# Altium schematic symbol library CPU.SchLib: 117 symbols (part 1 of 2)
Pins are listed as number, name and electrical type; pins without a type are passive.

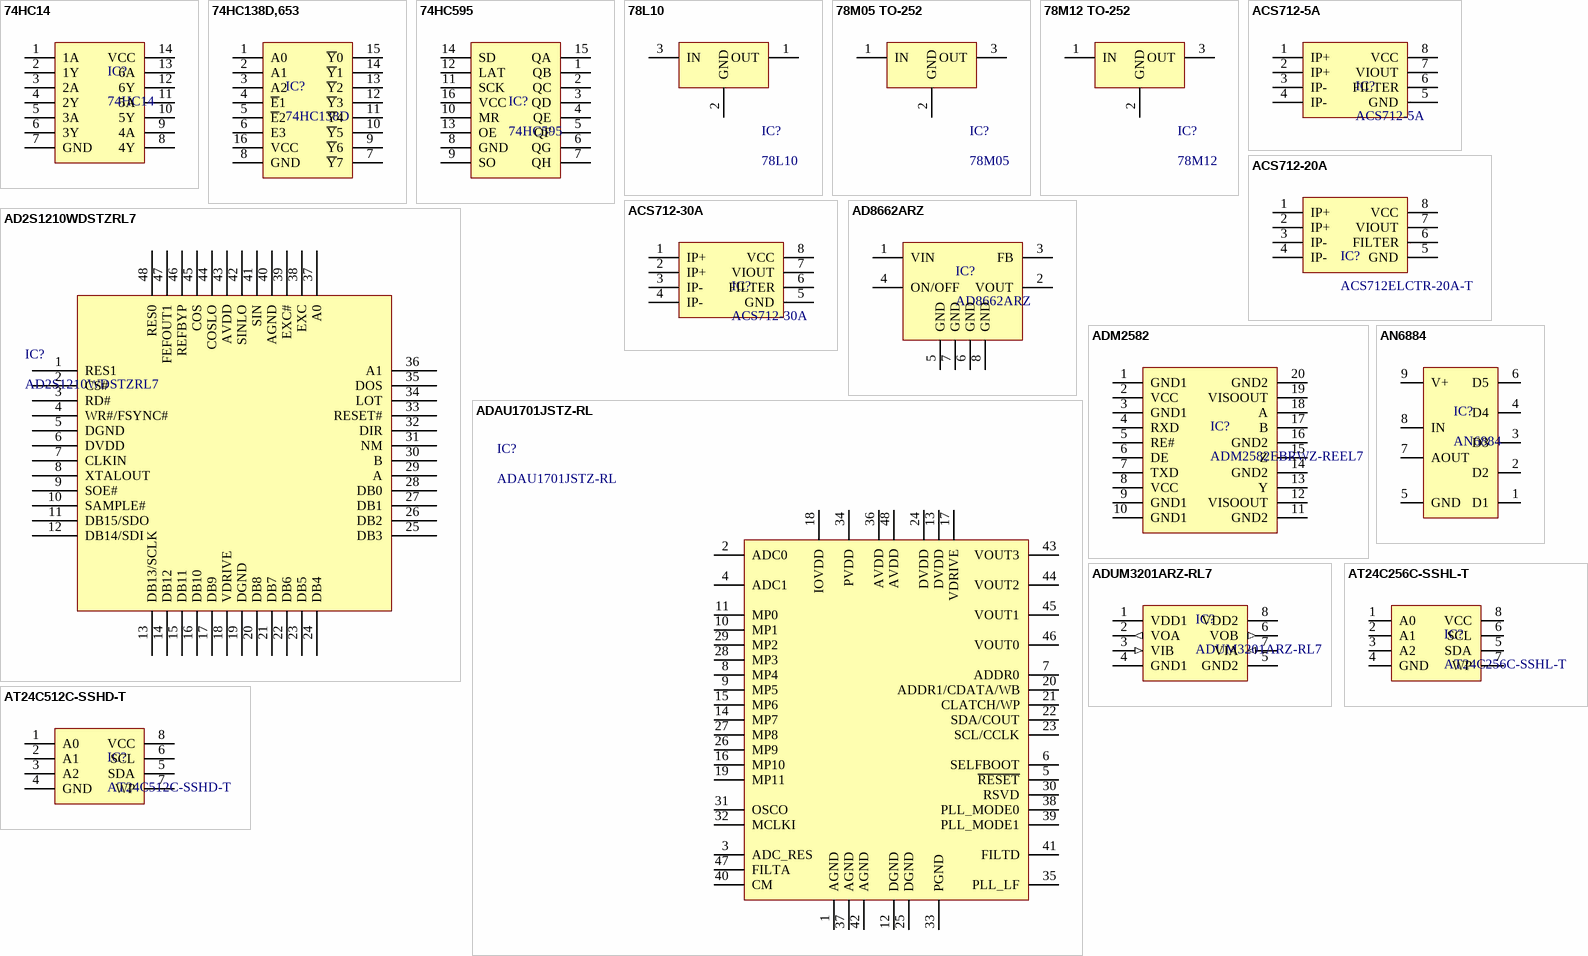
[diagram p0: symbols 74HC14 to AT24C512C-SSHD-T]

## 74HC14
designator IC?
2V~6V 6 SOP-14 Inverters ROHS; Manufacturer: JSMSEMI; So_Chan_Dan: 14; So_Chan_Cam: 0; Mfr.Part #: 74HC14; Package: SOP-14; Name: 74HC14
footprint SOP-14
pins: 1 1A, 2 1Y, 3 2A, 4 2Y, 5 3A, 6 3Y, 7 GND, 8 4Y, 9 4A, 10 5Y, 11 5A, 12 6Y, 13 6A, 14 VCC

## 74HC138D,653
designator IC?, comment 74HC138D
3/8 2V~6V 160uA 15ns@4.5V,50pF SOIC-16 Signal Switches, Multiplexers, Decoders RoHS; Manufacturer: Nexperia; Mfr.Part #: 74HC138D,653; Package: SOIC-16; LCSC Part #: C5602; DigiKey Part Number: 1727-2781-2-ND
footprint SOIC-16
pins: 1 A0, 2 A1, 3 A2, 4 ~{E}1, 5 ~{E}2, 6 E3, 7 ~{Y}7, 8 GND, 9 ~{Y}6, 10 ~{Y}5, 11 ~{Y}4, 12 ~{Y}3, 13 ~{Y}2, 14 ~{Y}1, 15 ~{Y}0, 16 VCC

## 74HC595
designator IC?
SOP-16 Shifting Register ROHS; Manufacturer: JSMSEMI; Mfr.Part #: 74HC595D; So_Chan_Cam: 0; So_Chan_Dan: 16; Package: SOP-16; Name: 74hc595
footprint SOP-16
pins: 1 QB, 2 QC, 3 QD, 4 QE, 5 QF, 6 QG, 7 QH, 8 GND, 9 SO, 10 MR, 11 SCK, 12 LAT, 13 OE, 14 SD, 15 QA, 16 VCC

## 78L10
designator IC?
100mA Fixed 10V Positive electrode 30V SOT-89 Voltage Regulators - Linear, Low Drop Out (LDO) Regulators ROHS; Manufacturer: MSKSEMI; Mfr.Part #: MS78L10; So_Chan_Dan: 3; So_Chan_Cam: 0; Name: 78L10; ComponentLink1Description: New link; ComponentLink1URL: https://www.lcsc.com/datasheet/lcsc_datasheet_2311231510_MSKSEMI-AMS1117-5-0V_C7473143.pdf; Package: SOT-89
footprint SOT-89
pins: 1 OUT, 2 GND, 3 IN

## 78M05 TO-252
designator IC?, comment 78M05
500mA Fixed 5V Positive electrode 35V TO-252-2L Linear Voltage Regulators (LDO) ROHS; Manufacturer: Jiangsu Changjing Electronics Technology Co., Ltd.; Mfr.Part #: CJ78M05; So_Chan_Dan: 3; So_Chan_Cam: 0; Package: TO-252-2L; Name: 78M05
footprint TO-252
pins: 1 IN, 2 GND, 3 OUT

## 78M12 TO-252
designator IC?, comment 78M12
500mA 80dB@(120Hz) null 12V Positive electrode 35V TO-252 Linear Voltage Regulators (LDO) ROHS; Manufacturer: MSKSEMI; Mfr.Part #: 78M12-MS; So_Chan_Dan: 3; So_Chan_Cam: 0; Name: 78M12; ComponentLink1Description: New link; ComponentLink1URL: https://www.lcsc.com/datasheet/lcsc_datasheet_2210271600_MSKSEMI-78M12-MS_C5174620.pdf; Package: TO-252
footprint TO-252
pins: 1 IN, 2 GND, 3 OUT

## ACS712-5A
designator IC?
5A SOIC-8 Current Sensors ROHS; Manufacturer: Allegro MicroSystems, LLC; Mfr.Part #: ACS712ELCTR-05B-T; So_Chan_Dan: 8; So_Chan_Cam: 0; Package: SOIC-8; Name: ACS712-5A
footprint SOIC-8
pins: 1 IP+, 2 IP+, 3 IP-, 4 IP-, 5 GND, 6 FILTER, 7 VIOUT, 8 VCC

## ACS712-20A
designator IC?, comment ACS712ELCTR-20A-T
20A SOIC-8 Current Sensors ROHS; Manufacturer: Allegro MicroSystems, LLC; Name: ACS712; So_Chan_Dan: 8; So_Chan_Cam: 0; Mfr.Part #: ACS712ELCTR-20A-T; Package: SOIC-8
footprint SOIC-8
pins: 1 IP+, 2 IP+, 3 IP-, 4 IP-, 5 GND, 6 FILTER, 7 VIOUT, 8 VCC

## ACS712-30A
designator IC?
30A SOIC-8 Current Sensors ROHS; Manufacturer: Allegro MicroSystems, LLC; Mfr.Part #: ACS712ELCTR-30A-T; So_Chan_Dan: 8; So_Chan_Cam: 0; Package: SOIC-8; Name: ACS712-30A
footprint SOIC-8
pins: 1 IP+, 2 IP+, 3 IP-, 4 IP-, 5 GND, 6 FILTER, 7 VIOUT, 8 VCC

## AD2S1210WDSTZRL7
designator IC?
4.75V~5.25V LQFP-48(7x7) ADCs/DACs - Special Purpose ROHS; Manufacturer: Analog Devices; So_Chan_Dan: 48; So_Chan_Cam: 0; Mfr.Part #: AD2S1210WDSTZRL7; Package: LQFP-48(7x7); Name: AD2S1210WDSTZRL7
footprint LQFP-48(7x7)
pins: 1 RES1, 2 CS#, 3 RD#, 4 WR#/FSYNC#, 5 DGND, 6 DVDD, 7 CLKIN, 8 XTALOUT, 9 SOE#, 10 SAMPLE#, 11 DB15/SDO, 12 DB14/SDI, 13 DB13/SCLK, 14 DB12, 15 DB11, 16 DB10, 17 DB9, 18 VDRIVE, 19 DGND, 20 DB8, 21 DB7, 22 DB6, 23 DB5, 24 DB4, 25 DB3, 26 DB2, 27 DB1, 28 DB0, 29 A, 30 B, 31 NM, 32 DIR, 33 RESET#, 34 LOT, 35 DOS, 36 A1, 37 A0, 38 EXC, 39 EXC#, 40 AGND, 41 SIN, 42 SINLO, 43 AVDD, 44 COSLO, 45 COS, 46 REFBYP, 47 FEFOUT1, 48 RES0

## AD8662ARZ
designator IC?
4MHz 0.3pA Dual channel SOIC-8 Precision Op Amps ROHS; Manufacturer: Analog Devices; Mfr.Part #: AD8662ARZ-REEL7; So_Chan_Dan: 6; So_Chan_Cam: 0; Packahe: SOIC-8; Name: AD8662ARZ
footprint SOIC-8
pins: 1 VIN, 2 VOUT, 3 FB, 4 ON/OFF, 5 GND, 6 GND, 7 GND, 8 GND

## ADAU1701JSTZ-RL
designator IC?
192kHz LQFP-48(7x7) DSP (Digital Signal Processors) RoHS; Manufacturer: ADI; Mfr.Part #: ADAU1701JSTZ-RL; Package: LQFP-48(7x7); LCSC Part #: C389590; ComponentLink1Description: Link; ComponentLink1URL: https://www.lcsc.com/product-detail/C389590.html?s_z=n_C389590; ComponentLink2Description: Link 1; ComponentLink2URL: https://www.digikey.com/en/products/detail/analog-devices-inc/ADAU1701JSTZ-RL/1555944?s=N4IgTCBcDaIIIBE4FUCMB2ADKgUgZQBUAtAWgCUAZEAXQF8g; DigiKey Part Number: ADAU1701JSTZ-RLTR-ND
footprint LQFP-48(7x7)
pins: 1 AGND, 2 ADC0, 3 ADC_RES, 4 ADC1, 5 ~{RESET}, 6 SELFBOOT, 7 ADDR0, 8 MP4, 9 MP5, 10 MP1, 11 MP0, 12 DGND, 13 DVDD, 14 MP7, 15 MP6, 16 MP10, 17 VDRIVE, 18 IOVDD, 19 MP11, 20 ADDR1/CDATA/WB, 21 CLATCH/WP, 22 SDA/COUT, 23 SCL/CCLK, 24 DVDD, 25 DGND, 26 MP9, 27 MP8, 28 MP3, 29 MP2, 30 RSVD, 31 OSCO, 32 MCLKI, 33 PGND, 34 PVDD, 35 PLL_LF, 36 AVDD, 37 AGND, 38 PLL_MODE0, 39 PLL_MODE1, 40 CM, 41 FILTD, 42 AGND, 43 VOUT3, 44 VOUT2, 45 VOUT1, 46 VOUT0, 47 FILTA, 48 AVDD

## ADM2582
designator IC?, comment ADM2582EBRWZ-REEL7
SOIC-20-300mil Isolated RS-485/422 Transceivers ROHS; MF: Texas Instruments; MP: SN74HC540DWE4; Purchase-URL: https://pricing.snapeda.com/search/part/SN74HC540DWE4/?ref=eda; Value: *; Package: SOIC-20 Texas Instruments; Check_prices: https://www.snapeda.com/parts/SN74HC540DWE4/Texas+Instruments/view-part/?ref=eda; Price: None; Availability: In Stock; SnapEDA_Link: https://www.snapeda.com/parts/SN74HC540DWE4/Texas+Instruments/view-part/?ref=snap
footprint SOI-20-300mil
pins: 1 GND1, 2 VCC, 3 GND1, 4 RXD, 5 RE#, 6 DE, 7 TXD, 8 VCC, 9 GND1, 10 GND1, 11 GND2, 12 VISOOUT, 13 Y, 14 GND2, 15 Z, 16 GND2, 17 B, 18 A, 19 VISOOUT, 20 GND2

## ADUM3201ARZ-RL7
designator IC?
SOIC-8 Digital Isolators ROHS; Manufacturer: Analog Devices; So_Chan_Dan: 8; So_Chan_Cam: 0; Mfr.Part #: ADUM3201ARZ-RL7; Package: SOIC-8; Name: ADUM3201ARZ-RL7
footprint SOIC-8
pins: 1 VDD1, 2 VOA (out), 3 VIB (in), 4 GND1, 5 GND2, 6 VOB (out), 7 VIA (in), 8 VDD2

## AN6884
designator IC?
MF: Panasonic; Package: None; Value: *; MP: AN6884
footprint SIP9
pins: 1 D1, 2 D2, 3 D3, 4 D4, 5 GND, 6 D5, 7 AOUT, 8 IN, 9 V+

## AT24C256C-SSHL-T
designator IC?
1.7V~5.5V 256Kbit 1MHz I2C SOIC-8 Memory (ICs) RoHS; Manufacturer: Microchip Tech; Mfr.Part #: AT24C256C-SSHL-T; Package: SOIC-8; LCSC Part #: C6482; ComponentLink1Description: Link; ComponentLink1URL: https://www.lcsc.com/product-detail/C6482.html?s_z=n_C6482; DigiKey Part Number: AT24C256C-SSHL-TTR-ND; ComponentLink2Description: Link 1; ComponentLink2URL: https://www.digikey.com/en/products/detail/microchip-technology/AT24C256C-SSHL-T/2271166?s=N4IgTCBcDaIIIBUwBYDCYCsA2VBaAyvgBIAyuCIAugL5A
footprint SOIC-8
pins: 1 A0, 2 A1, 3 A2, 4 GND, 5 SDA, 6 SCL, 7 WP, 8 VCC

## AT24C512C-SSHD-T
designator IC?
512Kbit 1MHz I2C SOIC-8 EEPROM ROHS; Manufacturer: MICROCHIP; Mfr.Part #: AT24C512C-SSHD-T; Package: SOIC-8; LCSC Part #: C12371
footprint SOIC-8
pins: 1 A0, 2 A1, 3 A2, 4 GND, 5 SDA, 6 SCL, 7 WP, 8 VCC

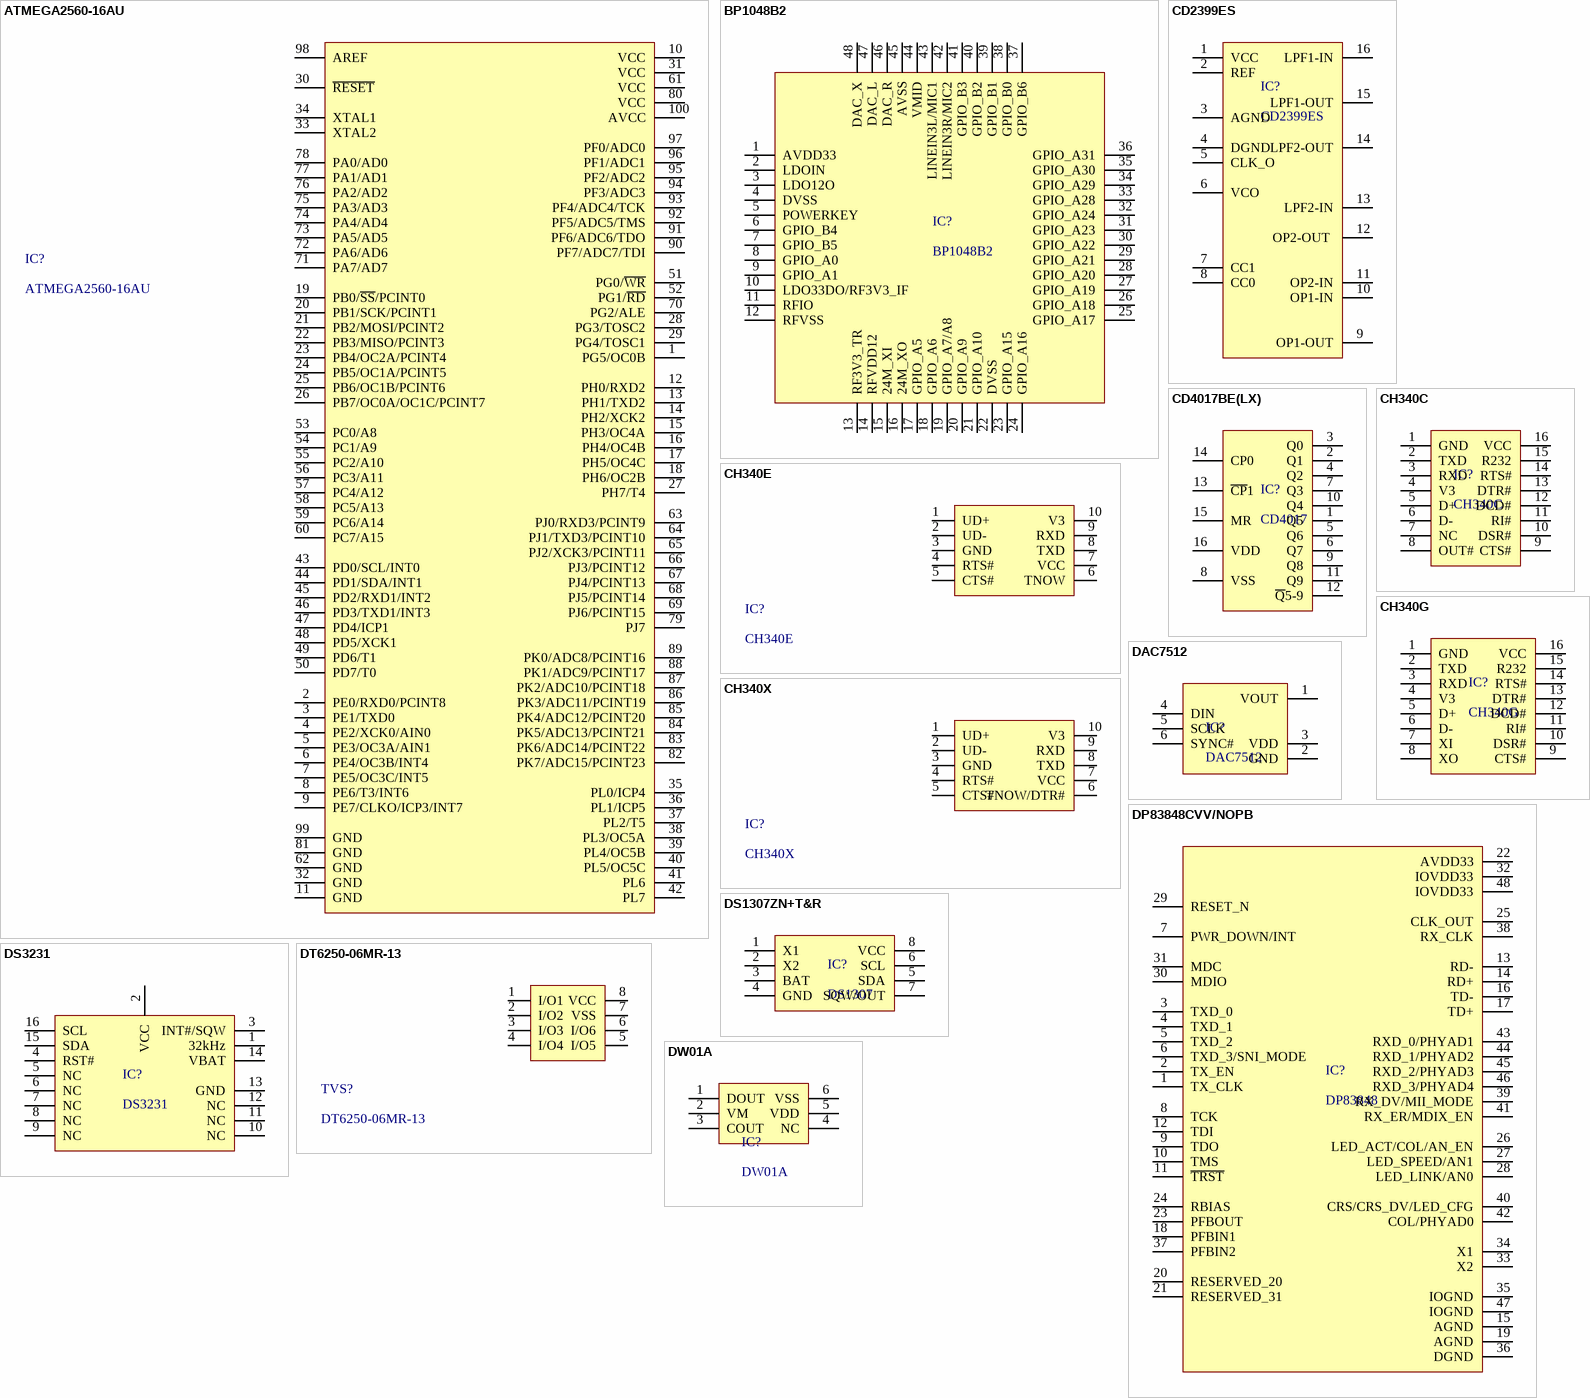
[diagram p1: symbols ATMEGA2560-16AU to DW01A]

## ATMEGA2560-16AU
designator IC?
AVR 16MHz TQFP-100(14x14) Microcontrollers (MCU/MPU/SOC) ROHS; Manufacturer: Microchip Tech; Name: STM32H750VBT6; So_Chan_Dan: 100; So_Chan_Cam: 0; Mfr.Part #: ATMEGA2560-16AU; Package: TQFP-100(14x14)
footprint TQFP-100(14x14)
pins: 1 PG5/OC0B, 2 PE0/RXD0/PCINT8, 3 PE1/TXD0, 4 PE2/XCK0/AIN0, 5 PE3/OC3A/AIN1, 6 PE4/OC3B/INT4, 7 PE5/OC3C/INT5, 8 PE6/T3/INT6, 9 PE7/CLKO/ICP3/INT7, 10 VCC, 11 GND (power), 12 PH0/RXD2, 13 PH1/TXD2, 14 PH2/XCK2, 15 PH3/OC4A, 16 PH4/OC4B, 17 PH5/OC4C, 18 PH6/OC2B, 19 PB0/~{SS}/PCINT0, 20 PB1/SCK/PCINT1, 21 PB2/MOSI/PCINT2, 22 PB3/MISO/PCINT3, 23 PB4/OC2A/PCINT4, 24 PB5/OC1A/PCINT5, 25 PB6/OC1B/PCINT6, 26 PB7/OC0A/OC1C/PCINT7, 27 PH7/T4, 28 PG3/TOSC2, 29 PG4/TOSC1, 30 ~{RESET}, 31 VCC, 32 GND (power), 33 XTAL2, 34 XTAL1, 35 PL0/ICP4, 36 PL1/ICP5, 37 PL2/T5, 38 PL3/OC5A, 39 PL4/OC5B, 40 PL5/OC5C, 41 PL6, 42 PL7, 43 PD0/SCL/INT0, 44 PD1/SDA/INT1, 45 PD2/RXD1/INT2, 46 PD3/TXD1/INT3, 47 PD4/ICP1, 48 PD5/XCK1, 49 PD6/T1, 50 PD7/T0, 51 PG0/~{WR}, 52 PG1/~{RD}, 53 PC0/A8, 54 PC1/A9, 55 PC2/A10, 56 PC3/A11, 57 PC4/A12, 58 PC5/A13, 59 PC6/A14, 60 PC7/A15, 61 VCC, 62 GND (power), 63 PJ0/RXD3/PCINT9, 64 PJ1/TXD3/PCINT10, 65 PJ2/XCK3/PCINT11, 66 PJ3/PCINT12, 67 PJ4/PCINT13, 68 PJ5/PCINT14, 69 PJ6/PCINT15, 70 PG2/ALE, 71 PA7/AD7, 72 PA6/AD6, 73 PA5/AD5, 74 PA4/AD4, 75 PA3/AD3, 76 PA2/AD2, 77 PA1/AD1, 78 PA0/AD0, 79 PJ7, 80 VCC, 81 GND (power), 82 PK7/ADC15/PCINT23, 83 PK6/ADC14/PCINT22, 84 PK5/ADC13/PCINT21, 85 PK4/ADC12/PCINT20, 86 PK3/ADC11/PCINT19, 87 PK2/ADC10/PCINT18, 88 PK1/ADC9/PCINT17, 89 PK0/ADC8/PCINT16, 90 PF7/ADC7/TDI, 91 PF6/ADC6/TDO, 92 PF5/ADC5/TMS, 93 PF4/ADC4/TCK, 94 PF3/ADC3, 95 PF2/ADC2, 96 PF1/ADC1, 97 PF0/ADC0, 98 AREF, 99 GND (power), 100 AVCC

## BP1048B2
designator IC?
Manufacturer: MVLISICON; So_Chan_Dan: 48; So_Chan_Cam: 0; Mfr.Part #: BP1048B2; Package: LQFP-48(7x7); Name: BP1048B2
footprint LQFP-48(7x7)
pins: 1 AVDD33, 2 LDOIN, 3 LDO12O, 4 DVSS, 5 POWERKEY, 6 GPIO_B4, 7 GPIO_B5, 8 GPIO_A0, 9 GPIO_A1, 10 LDO33DO/RF3V3_IF, 11 RFIO, 12 RFVSS, 13 RF3V3_TR, 14 RFVDD12, 15 24M_XI, 16 24M_XO, 17 GPIO_A5, 18 GPIO_A6, 19 GPIO_A7/A8, 20 GPIO_A9, 21 GPIO_A10, 22 DVSS, 23 GPIO_A15, 24 GPIO_A16, 25 GPIO_A17, 26 GPIO_A18, 27 GPIO_A19, 28 GPIO_A20, 29 GPIO_A21, 30 GPIO_A22, 31 GPIO_A23, 32 GPIO_A24, 33 GPIO_A28, 34 GPIO_A29, 35 GPIO_A30, 36 GPIO_A31, 37 GPIO_B6, 38 GPIO_B0, 39 GPIO_B1, 40 GPIO_B2, 41 GPIO_B3, 42 LINEIN3R/MIC2, 43 LINEIN3L/MIC1, 44 VMID, 45 AVSS, 46 DAC_R, 47 DAC_L, 48 DAC_X

## CD2399ES
designator IC?
Processor SOP-16 Audio Special Purpose RoHS; Manufacturer: GREENMICRO; Mfr.Part #: CD2399ES; Package: SOP-16; LCSC Part #: C51927339; DigiKey Part Number: NO; ComponentLink1Description: Link; ComponentLink1URL: https://www.lcsc.com/product-detail/C51927339.html?s_z=n_CD2399
footprint SOIC-16
pins: 1 VCC, 2 REF, 3 AGND, 4 DGND, 5 CLK_O, 6 VCO, 7 CC1, 8 CC0, 9 OP1-OUT, 10 OP1-IN, 11 OP2-IN, 12 OP2-OUT , 13 LPF2-IN, 14 LPF2-OUT, 15 LPF1-OUT, 16 LPF1-IN

## CD4017BE(LX)
designator IC?, comment CD4017
Rising Edge 1 11MHz DIP-16 Counters, Dividers RoHS; Manufacturer: lingxingic; Mfr.Part #: CD4017BE(LX); LCSC Part #: C32710674; Package: DIP-16; DigiKey Part Number: NO
footprint DIP-16
pins: 1 Q5, 2 Q1, 3 Q0, 4 Q2, 5 Q6, 6 Q7, 7 Q3, 8 VSS, 9 Q8, 10 Q4, 11 Q9, 12 ~{Q}5-9, 13 ~{CP}1, 14 CP0, 15 MR, 16 VDD

## CH340C
designator IC?
Transceiver 2Mbps USB 2.0 SOP-16 Interface Controllers RoHS; Manufacturer: WCH; Mfr.Part #: CH340C; Package: SOP-16; LCSC Part #: C84681; ComponentLink1Description: Link; ComponentLink1URL: https://www.lcsc.com/product-detail/C84681.html?s_z=n_CH340C; ComponentLink2Description: Link 1; ComponentLink2URL: *; DigiKey Part Number: NO
footprint SOIC-16
pins: 1 GND, 2 TXD, 3 RXD, 4 V3, 5 D+, 6 D-, 7 NC, 8 OUT#, 9 CTS#, 10 DSR#, 11 RI#, 12 DCD#, 13 DTR#, 14 RTS#, 15 R232, 16 VCC

## CH340E
designator IC?
Transceiver 2Mbps USB 2.0 MSOP-10 Interface Controllers RoHS; Manufacturer: WCH; Mfr.Part #: CH340E; Package: MSOP-10; LCSC Part #: C99652; DigiKey Part Number: NO; ComponentLink1Description: Link; ComponentLink1URL: https://www.lcsc.com/product-detail/C99652.html?s_z=n_CH340E; ComponentLink2Description: Link 1
footprint MSOP-10
pins: 1 UD+, 2 UD-, 3 GND, 4 RTS#, 5 CTS#, 6 TNOW, 7 VCC, 8 TXD, 9 RXD, 10 V3

## CH340G
designator IC?
2Mbps USB to UART USB 2.0 SOP-16 USB Converters ROHS; Manufacturer: WCH(Jiangsu Qin Heng); So_Chan_Dan: 16; So_Chna_Cam: 0; Mfr.Part #: CH340G; Package: SOP-16; Name: CH340G
footprint SOP-16
pins: 1 GND, 2 TXD, 3 RXD, 4 V3, 5 D+, 6 D-, 7 XI, 8 XO, 9 CTS#, 10 DSR#, 11 RI#, 12 DCD#, 13 DTR#, 14 RTS#, 15 R232, 16 VCC

## CH340X
designator IC?
2Mbps Transceiver USB 2.0 SOP-16 USB Converters ROHS; Manufacturer: WCH(Jiangsu Qin Heng); Mfr.Part #: CH340X; Package: MSOP-10; LCSC Part #: C3035748; DigiKey Part Number: NO; ComponentLink1Description: Link; ComponentLink1URL: https://www.lcsc.com/product-detail/C3035748.html?s_z=n_C3035748; ComponentLink2Description: Link 1
footprint MSOP-10
pins: 1 UD+, 2 UD-, 3 GND, 4 RTS#, 5 CTS#, 6 TNOW/DTR#, 7 VCC, 8 TXD, 9 RXD, 10 V3

## DAC7512
designator IC?
10us 2.7V~5.5V 12 Bits SOT-23-6 Digital to Analog Converters (DAC) ROHS; Manufacturer: Texas Instruments; Mfr.Part #: DAC7512N/3K; So_Chan_Dan: 6; So_Chan_Cam: 0; Package: SOT23-6; Name: DAC7512
footprint SOT23-6
pins: 1 VOUT, 2 GND, 3 VDD (power), 4 DIN (power), 5 SCLK (power), 6 SYNC#

## DP83848CVV/NOPB
designator IC?, comment DP83848
PHY Transceiver 3.3V LQFP-48(7x7) Drivers, Receivers, Transceivers RoHS; Manufacturer: TI; Mfr.Part #: DP83848IVVX/NOPB; Package: LQFP-48(7x7); LCSC Part #: C12082; DigiKey Part Number: DP83848IVVX/NOPBTR-ND
footprint LQFP-48(7x7)
pins: 1 TX_CLK, 2 TX_EN, 3 TXD_0, 4 TXD_1, 5 TXD_2, 6 TXD_3/SNI_MODE, 7 PWR_DOWN/INT, 8 TCK, 9 TDO, 10 TMS, 11 ~{TRST}, 12 TDI, 13 RD-, 14 RD+, 15 AGND, 16 TD-, 17 TD+, 18 PFBIN1, 19 AGND, 20 RESERVED_20, 21 RESERVED_31, 22 AVDD33, 23 PFBOUT, 24 RBIAS, 25 CLK_OUT, 26 LED_ACT/COL/AN_EN, 27 LED_SPEED/AN1, 28 LED_LINK/AN0, 29 RESET_N, 30 MDIO, 31 MDC, 32 IOVDD33, 33 X2, 34 X1, 35 IOGND, 36 DGND, 37 PFBIN2, 38 RX_CLK, 39 RX_DV/MII_MODE, 40 CRS/CRS_DV/LED_CFG, 41 RX_ER/MDIX_EN, 42 COL/PHYAD0, 43 RXD_0/PHYAD1, 44 RXD_1/PHYAD2, 45 RXD_2/PHYAD3, 46 RXD_3/PHYAD4, 47 IOGND, 48 IOVDD33

## DS1307ZN+T&R
designator IC?, comment DS1307
External No SOP-8 Real Time Clocks RoHS; Manufacturer: MAXIM; Mfr.Part #: DS1307ZN+T&R; Package: SOP-8; LCSC Part #: C26858; DigiKey Part Number: DS1307ZN+T&RTR-ND
footprint SOIC-8
pins: 1 X1, 2 X2, 3 BAT, 4 GND, 5 SDA, 6 SCL, 7 SQW/OUT, 8 VCC

## DS3231
designator IC?
I2C SOIC-16-300mil Real Time Clocks ROHS; Manufacturer: Texas Instruments; Mfr.Part #: DS3231SN#T&R; So_Chan_Dan: 16; So_Chan_Cam: 0; Name: DS3231; Package: SOIC-16-300mil; Links: https://www.lcsc.com/product-detail/Real-Time-Clocks_Analog-Devices-Inc-Maxim-Integrated-DS3231SN-T-R_C9866.html
footprint SOIC-16-300mil
pins: 1 32kHz, 2 VCC, 3 INT#/SQW, 4 RST#, 5 NC, 6 NC, 7 NC, 8 NC, 9 NC, 10 NC, 11 NC, 12 NC, 13 GND, 14 VBAT, 15 SDA, 16 SCL

## DT6250-06MR-13
designator TVS?
4A@8/20us 10V 6V 5V MSOP-8 TVS Diodes RoHS; So_Chna_Cam: 0; Manufacturer: DIODES; Mfr.Part #: DT6250-06MR-13; Package: MSOP-8; LCSC Part #: C460602; DigiKey Part Number: DT6250-06MR-13DITR-ND
footprint MSOP-8
pins: 1 I/O1, 2 I/O2, 3 I/O3, 4 I/O4, 5 I/O5, 6 I/O6, 7 VSS, 8 VCC

## DW01A
designator IC?
Lithium-ion/Polymer 1 SOT23-6 Battery Management ROHS; Manufacturer: HL; So_Chan_Dan: 6; So_Chan_Cam: 0; Package: SOT23-6; Name: DW01A; Mfr.Part #: DW01A
footprint SOT23-6
pins: 1 DOUT, 2 VM, 3 COUT (power), 4 NC (power), 5 VDD (power), 6 VSS

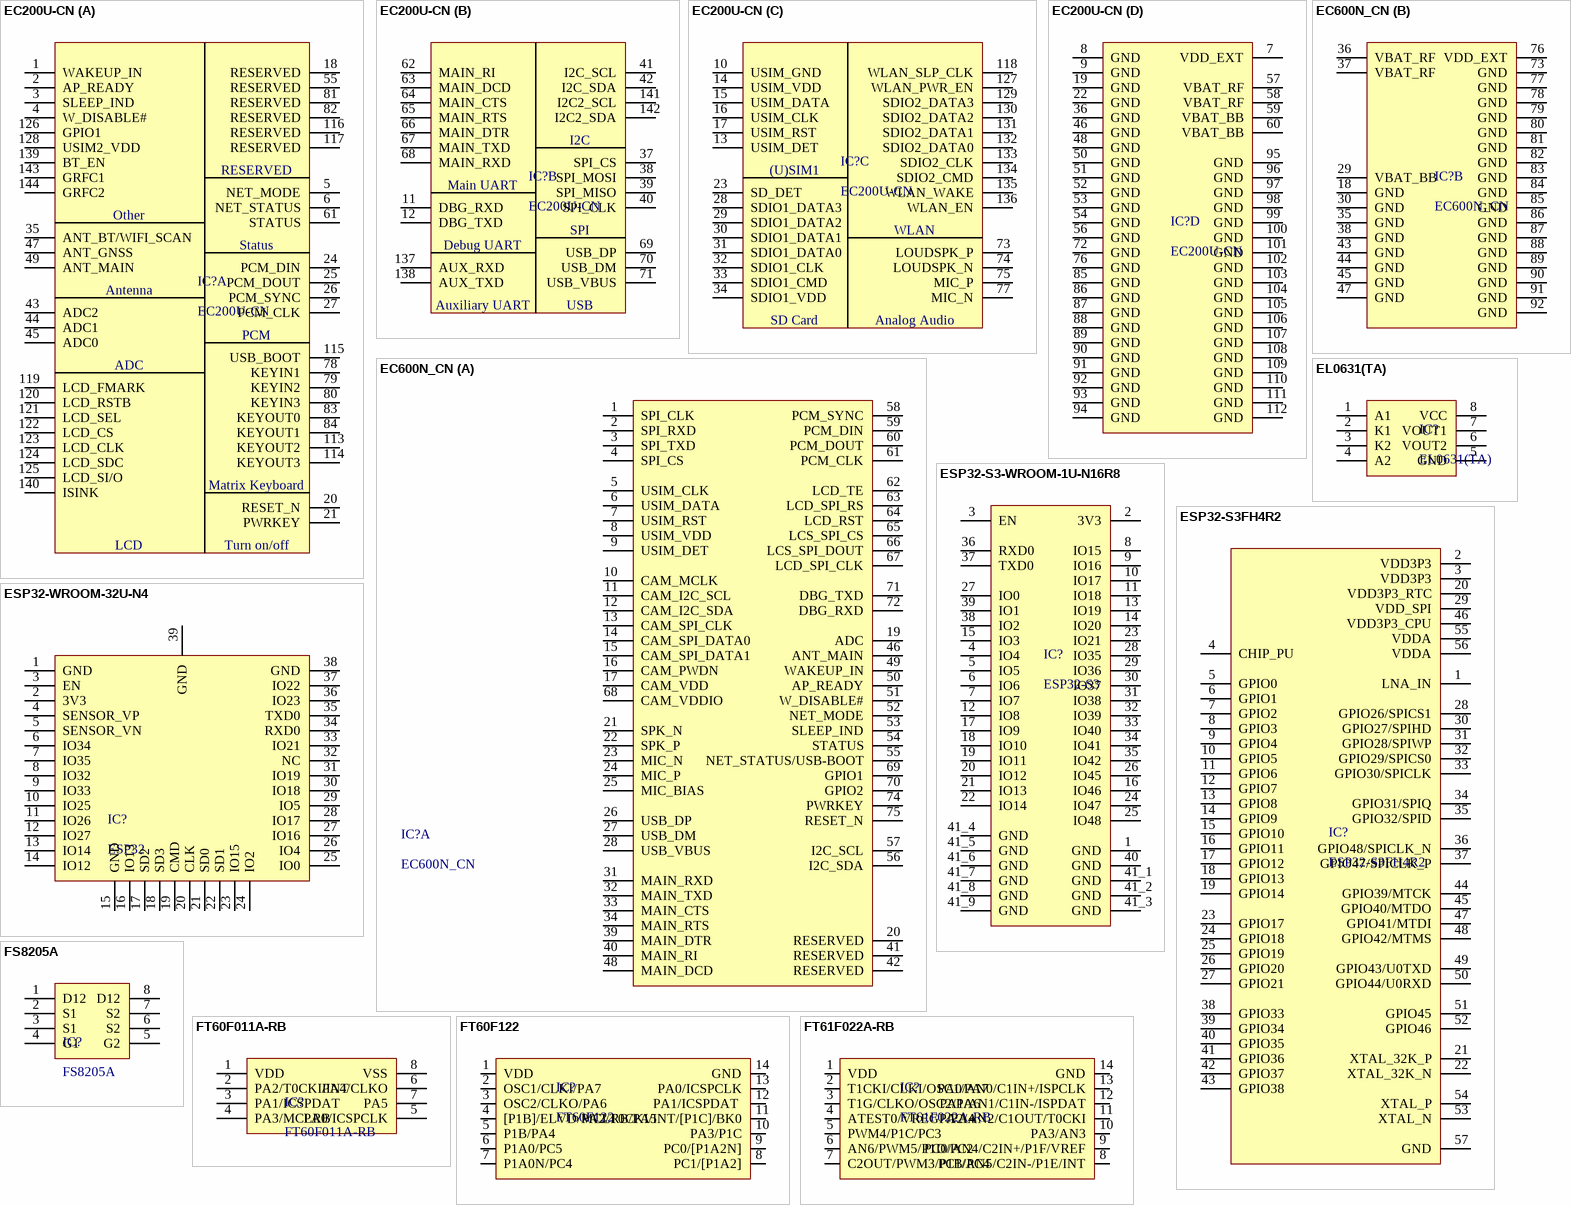
[diagram p2: symbols EC200U-CN to FT61F022A-RB]

## EC200U-CN
designator IC?
Transceiver Module; Manufacturer: QUECTEL; Mfr.Part #: EC200UCNAA-N05-SGNSA; So_Chan_Dan: 144; So_Chan_Cam: 0; Package: LQFP-64(10x10); Name: EC200U-CN
footprint EC200U-XX
part A pins: 1 WAKEUP_IN, 2 AP_READY, 3 SLEEP_IND, 4 W_DISABLE#, 5 NET_MODE, 6 NET_STATUS, 18 RESERVED, 20 RESET_N, 21 PWRKEY, 24 PCM_DIN, 25 PCM_DOUT, 26 PCM_SYNC, 27 PCM_CLK, 35 ANT_BT/WIFI_SCAN, 43 ADC2, 44 ADC1, 45 ADC0, 47 ANT_GNSS, 49 ANT_MAIN, 55 RESERVED, 61 STATUS, 78 KEYIN1, 79 KEYIN2, 80 KEYIN3, 81 RESERVED, 82 RESERVED, 83 KEYOUT0, 84 KEYOUT1, 113 KEYOUT2, 114 KEYOUT3, 115 USB_BOOT, 116 RESERVED, 117 RESERVED, 119 LCD_FMARK, 120 LCD_RSTB, 121 LCD_SEL, 122 LCD_CS, 123 LCD_CLK, 124 LCD_SDC, 125 LCD_SI/O, 126 GPIO1, 128 USIM2_VDD, 139 BT_EN, 140 ISINK, 143 GRFC1, 144 GRFC2
part B pins: 11 DBG_RXD, 12 DBG_TXD, 37 SPI_CS, 38 SPI_MOSI, 39 SPI_MISO, 40 SPI_CLK, 41 I2C_SCL, 42 I2C_SDA, 62 MAIN_RI, 63 MAIN_DCD, 64 MAIN_CTS, 65 MAIN_RTS, 66 MAIN_DTR, 67 MAIN_TXD, 68 MAIN_RXD, 69 USB_DP, 70 USB_DM, 71 USB_VBUS, 137 AUX_RXD, 138 AUX_TXD, 141 I2C2_SCL, 142 I2C2_SDA
part C pins: 10 USIM_GND, 13 USIM_DET, 14 USIM_VDD, 15 USIM_DATA, 16 USIM_CLK, 17 USIM_RST, 23 SD_DET, 28 SDIO1_DATA3, 29 SDIO1_DATA2, 30 SDIO1_DATA1, 31 SDIO1_DATA0, 32 SDIO1_CLK, 33 SDIO1_CMD, 34 SDIO1_VDD, 73 LOUDSPK_P, 74 LOUDSPK_N, 75 MIC_P, 77 MIC_N, 118 WLAN_SLP_CLK, 127 WLAN_PWR_EN, 129 SDIO2_DATA3, 130 SDIO2_DATA2, 131 SDIO2_DATA1, 132 SDIO2_DATA0, 133 SDIO2_CLK, 134 SDIO2_CMD, 135 WLAN_WAKE, 136 WLAN_EN
part D pins: 7 VDD_EXT, 8 GND, 9 GND, 19 GND, 22 GND, 36 GND, 46 GND, 48 GND, 50 GND, 51 GND, 52 GND, 53 GND, 54 GND, 56 GND, 57 VBAT_RF, 58 VBAT_RF, 59 VBAT_BB, 60 VBAT_BB, 72 GND, 76 GND, 85 GND, 86 GND, 87 GND, 88 GND, 89 GND, 90 GND, 91 GND, 92 GND, 93 GND, 94 GND, 95 GND, 96 GND, 97 GND, 98 GND, 99 GND, 100 GND, 101 GND, 102 GND, 103 GND, 104 GND, 105 GND, 106 GND, 107 GND, 108 GND, 109 GND, 110 GND, 111 GND, 112 GND
part A text: Other; Status; Antenna; PCM; ADC; Matrix Keyboard; LCD; Turn on/off
part B text: I2C; Main UART; SPI; Debug UART; Auxiliary UART; USB
part C text: (U)SIM1; WLAN; SD Card; Analog Audio

## EC600N_CN
designator IC?
Transceiver Module; Manufacturer: QUECTEL; Package: EC600N_CN; Mfr.Part #: EC600N_CN; LCSC Part #: NO; DigiKey Part Number: NO
footprint EC600N-CN_R1.1
part A pins: 1 SPI_CLK, 2 SPI_RXD, 3 SPI_TXD, 4 SPI_CS, 5 USIM_CLK, 6 USIM_DATA, 7 USIM_RST, 8 USIM_VDD, 9 USIM_DET, 10 CAM_MCLK, 11 CAM_I2C_SCL, 12 CAM_I2C_SDA, 13 CAM_SPI_CLK, 14 CAM_SPI_DATA0, 15 CAM_SPI_DATA1, 16 CAM_PWDN, 17 CAM_VDD, 19 ADC, 20 RESERVED, 21 SPK_N, 22 SPK_P, 23 MIC_N, 24 MIC_P, 25 MIC_BIAS, 26 USB_DP, 27 USB_DM, 28 USB_VBUS, 31 MAIN_RXD, 32 MAIN_TXD, 33 MAIN_CTS, 34 MAIN_RTS, 39 MAIN_DTR, 40 MAIN_RI, 41 RESERVED, 42 RESERVED, 46 ANT_MAIN, 48 MAIN_DCD, 49 WAKEUP_IN, 50 AP_READY, 51 W_DISABLE#, 52 NET_MODE, 53 SLEEP_IND, 54 STATUS, 55 NET_STATUS/USB-BOOT, 56 I2C_SDA, 57 I2C_SCL, 58 PCM_SYNC, 59 PCM_DIN, 60 PCM_DOUT, 61 PCM_CLK, 62 LCD_TE, 63 LCD_SPI_RS, 64 LCD_RST, 65 LCS_SPI_CS, 66 LCS_SPI_DOUT, 67 LCD_SPI_CLK, 68 CAM_VDDIO, 69 GPIO1, 70 GPIO2, 71 DBG_TXD, 72 DBG_RXD, 74 PWRKEY, 75 RESET_N
part B pins: 18 GND, 29 VBAT_BB, 30 GND, 35 GND, 36 VBAT_RF, 37 VBAT_RF, 38 GND, 43 GND, 44 GND, 45 GND, 47 GND, 73 GND, 76 VDD_EXT, 77 GND, 78 GND, 79 GND, 80 GND, 81 GND, 82 GND, 83 GND, 84 GND, 85 GND, 86 GND, 87 GND, 88 GND, 89 GND, 90 GND, 91 GND, 92 GND

## EL0631(TA)
designator IC?
10Mbit/s 100ns 7V 10kV/us DC SOP-8 Logic Output Optocoupler ROHS; Manufacturer: Everlight Elec; So_Chan_Dan: 8; So_Chan_Cam: 0; Mfr.Part #: EL0631(TA); Package: SOP-8; Name: EL0631(TA)
footprint SOIC-8-1
pins: 1 A1, 2 K1, 3 K2, 4 A2, 5 GND, 6 VOUT2, 7 VOUT1, 8 VCC

## ESP32-S3-WROOM-1U-N16R8
designator IC?, comment ESP32-S3
2.4GHz ESP32-S3R8 -103.5dBm SMD,19.2x18mm RF Transceiver Modules and Modems RoHS; Manufacturer: ESPRESSIF; Mfr.Part #: ESP32-S3-WROOM-1U-N16R8; Package: SMD,19.2x18mm; LCSC Part #: C3013946; DigiKey Part Number: 1965-ESP32-S3-WROOM-1U-N16R8TR-ND; ComponentLink1Description: Link; ComponentLink1URL: https://www.lcsc.com/product-detail/C3013946.html?s_z=n_c3013946; ComponentLink2Description: Link 1; ComponentLink2URL: https://www.digikey.com/en/products/detail/espressif-systems/ESP32-S3-WROOM-1U-N16R8/16162641
footprint ESP32-S3-WROOM-1U-N16R8
pins: 1 GND, 2 3V3, 3 EN, 4 IO4, 5 IO5, 6 IO6, 7 IO7, 8 IO15, 9 IO16, 10 IO17, 11 IO18, 12 IO8, 13 IO19, 14 IO20, 15 IO3, 16 IO46, 17 IO9, 18 IO10, 19 IO11, 20 IO12, 21 IO13, 22 IO14, 23 IO21, 24 IO47, 25 IO48, 26 IO45, 27 IO0, 28 IO35, 29 IO36, 30 IO37, 31 IO38, 32 IO39, 33 IO40, 34 IO41, 35 IO42, 36 RXD0, 37 TXD0, 38 IO2, 39 IO1, 40 GND, 41_1 GND, 41_2 GND, 41_3 GND, 41_4 GND, 41_5 GND, 41_6 GND, 41_7 GND, 41_8 GND, 41_9 GND

## ESP32-S3FH4R2
designator IC?
21dBm LX7 Chip 2.4GHz QFN-56(7x7) WiFi Modules ROHS; Manufacturer: Espressif Systems; Package: QFN-56(7x7); Mfr.Part #: ESP32-S3FH4R2; Name: ESP32-S3FH4R2
footprint QFN-56(7x7)
pins: 1 LNA_IN, 2 VDD3P3, 3 VDD3P3, 4 CHIP_PU, 5 GPIO0, 6 GPIO1, 7 GPIO2, 8 GPIO3, 9 GPIO4, 10 GPIO5, 11 GPIO6, 12 GPIO7, 13 GPIO8, 14 GPIO9, 15 GPIO10, 16 GPIO11, 17 GPIO12, 18 GPIO13, 19 GPIO14, 20 VDD3P3_RTC, 21 XTAL_32K_P, 22 XTAL_32K_N, 23 GPIO17, 24 GPIO18, 25 GPIO19, 26 GPIO20, 27 GPIO21, 28 GPIO26/SPICS1, 29 VDD_SPI, 30 GPIO27/SPIHD, 31 GPIO28/SPIWP, 32 GPIO29/SPICS0, 33 GPIO30/SPICLK, 34 GPIO31/SPIQ, 35 GPIO32/SPID, 36 GPIO48/SPICLK_N, 37 GPIO47/SPICLK_P, 38 GPIO33, 39 GPIO34, 40 GPIO35, 41 GPIO36, 42 GPIO37, 43 GPIO38, 44 GPIO39/MTCK, 45 GPIO40/MTDO, 46 VDD3P3_CPU, 47 GPIO41/MTDI, 48 GPIO42/MTMS, 49 GPIO43/U0TXD, 50 GPIO44/U0RXD, 51 GPIO45, 52 GPIO46, 53 XTAL_N, 54 XTAL_P, 55 VDDA, 56 VDDA, 57 GND

## ESP32-WROOM-32U-N4
designator IC?, comment ESP32
2.4GHz ESP32-DOWD -97dBm SMD,19.2x18mm RF Transceiver Modules and Modems RoHS; Manufacturer: ESPRESSIF; Mfr.Part #: ESP32-WROOM-32U-N4; Package: SMD,19.2x18mm; LCSC Part #: C328062; DigiKey Part Number: 1965-ESP32-WROOM-32U-N4TR-ND; ComponentLink1Description: Link; ComponentLink1URL: https://www.lcsc.com/product-detail/C328062.html?s_z=n_ESP32-WROOM-32; ComponentLink2Description: Link 1; ComponentLink2URL: https://www.digikey.com/en/products/detail/espressif-systems/ESP32-WROOM-32U-N4/9381719?s=N4IgTCBcDaIAQFEDKAFAzGAtAdQEoHl8BZTDAVUwDkAWEAXQF8g
footprint ESP32-WROOM-32U
pins: 1 GND, 2 3V3, 3 EN, 4 SENSOR_VP, 5 SENSOR_VN, 6 IO34, 7 IO35, 8 IO32, 9 IO33, 10 IO25, 11 IO26, 12 IO27, 13 IO14, 14 IO12, 15 GND, 16 IO13, 17 SD2, 18 SD3, 19 CMD, 20 CLK, 21 SD0, 22 SD1, 23 IO15, 24 IO2, 25 IO0, 26 IO4, 27 IO16, 28 IO17, 29 IO5, 30 IO18, 31 IO19, 32 NC, 33 IO21, 34 RXD0, 35 TXD0, 36 IO23, 37 IO22, 38 GND, 39 GND

## FS8205A
designator IC?
20V 6A 25mΩ@4.5V,4A 1W 1V@250uA 2 N-Channel TSSOP-8 MOSFETs ROHS; Manufacturer: Fortune Semicon; So_Chan_Dan: 8; So_Chan_Cam: 0; Package: TSSOP-8; Name: FS8205A; Mfr.Part #: FS8205A
footprint TSSOP-8
pins: 1 D12, 2 S1, 3 S1 (power), 4 G1 (power), 5 G2 (power), 6 S2, 7 S2, 8 D12

## FT60F011A-RB
designator IC?
16MHz SOP-8 Microcontrollers (MCU/MPU/SOC) ROHS; Manufacturer: FMD(Fremont Micro Devices); So_Chan_Dan: 8; So_Chan_Cam: 0; Mfr.Part #: FT60F011A-RB; Package: SOIC-8; Name: FT60F011A-RB
footprint SOIC-8
pins: 1 VDD, 2 PA2/T0CKI/INT, 3 PA1/ICSPDAT, 4 PA3/MCLRB, 5 PA0/ICSPCLK, 6 PA4/CLKO, 7 PA5, 8 VSS

## FT60F122
designator IC?
SOP-14 Microcontrollers (MCU/MPU/SOC) ROHS; Manufacturer: FMD(Fremont Micro Devices); Name: FT61F022A-RB; So_Chan_Dan: 14; So_Chna_Cam: 0; Mfr.Part #: FT60F122; Package: SOIC-14
footprint SOP-14
pins: 1 VDD, 2 OSC1/CLKI/PA7, 3 OSC2/CLKO/PA6, 4 [P1B]/ELVD/MCLRB/PA5, 5 P1B/PA4, 6 P1A0/PC5, 7 P1A0N/PC4, 8 PC1/[P1A2], 9 PC0/[P1A2N], 10 PA3/P1C, 11 PA2/T0CKI/INT/[P1C]/BK0, 12 PA1/ICSPDAT , 13 PA0/ICSPCLK, 14 GND

## FT61F022A-RB
designator IC?
RISC 16MHz SOP-14 Microcontrollers (MCU/MPU/SOC) ROHS; Manufacturer: FMD(Fremont Micro Devices); So_Chan_Dan: 14; So_Chna_Cam: 0; Mfr.Part #: FT61F022A-RB; Package: SOIC-14; Name: FT61F022A-RB
footprint SOP-14
pins: 1 VDD, 2 T1CKI/CLKI/OSC1/PA7, 3 T1G/CLKO/OSC2/PA6, 4 ATEST0/VREGP/PA4, 5 PWM4/P1C/PC3, 6 AN6/PWM5/P1D/PC2, 7 C2OUT/PWM3/P1B/PC4, 8 PC1/AN5/C2IN-/P1E/INT, 9 PC0/AN4/C2IN+/P1F/VREF, 10 PA3/AN3, 11 PA2/AN2/C1OUT/T0CKI, 12 PA1/AN1/C1IN-/ISPDAT, 13 PA0/AN0/C1IN+/ISPCLK, 14 GND

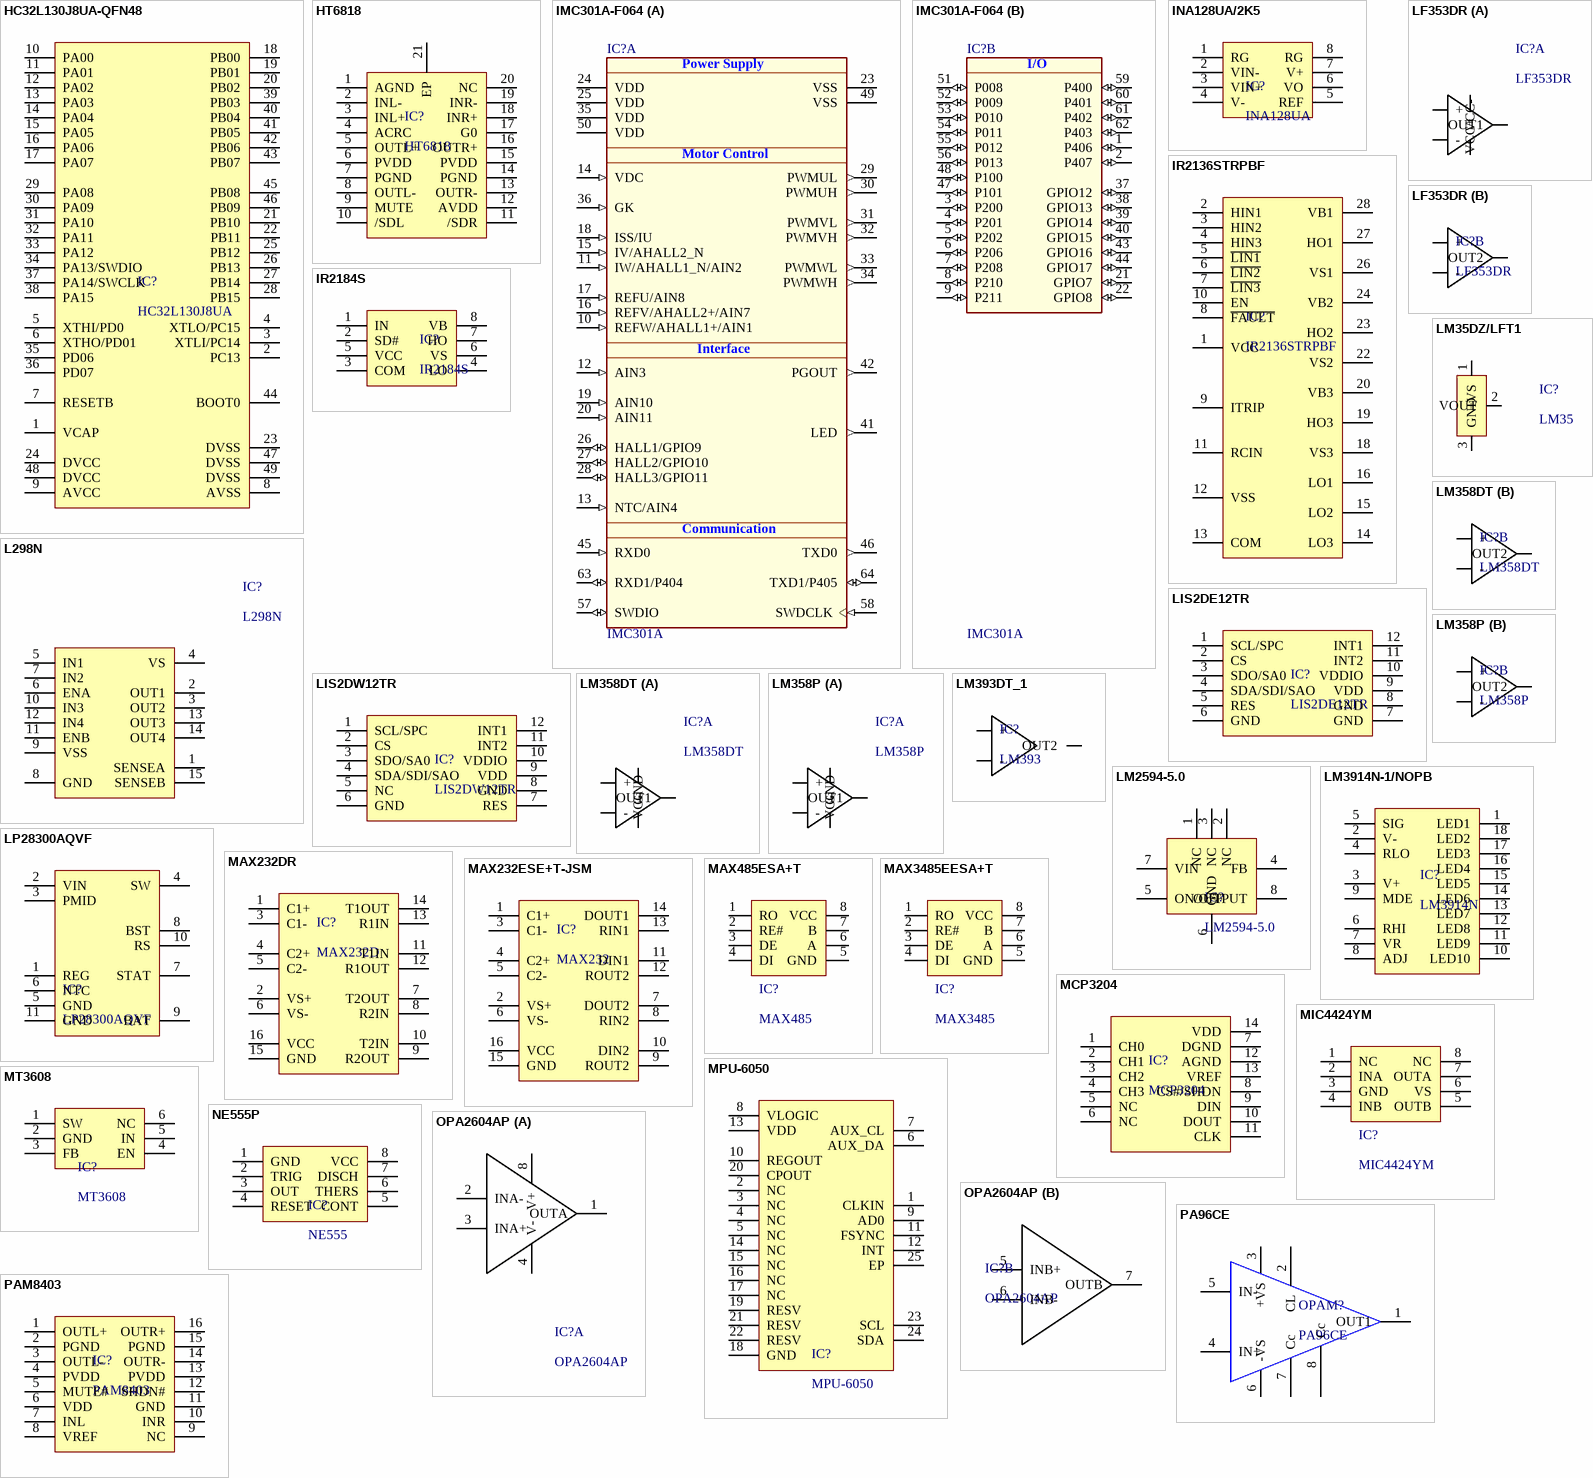
[diagram p3: symbols HC32L130J8UA-QFN48 to PAM8403]

## HC32L130J8UA-QFN48
designator IC?, comment HC32L130J8UA
ARM Cortex-M0 48MHz 40 QFN-48-EP(7x7) Microcontrollers RoHS; Mfr.Part #: HC32L130J8UA-QFN48; Manufacturer: XHSC; Package: QFN-48-EP(7x7); LCSC Part #: C784656; DigiKey Part Number: NO
footprint QFN-48-EP(7x7)-(HC32L130J8UA-QFN48)
pins: 1 VCAP, 2 PC13, 3 XTLI/PC14, 4 XTLO/PC15, 5 XTHI/PD0, 6 XTHO/PD01, 7 RESETB, 8 AVSS, 9 AVCC, 10 PA00, 11 PA01, 12 PA02, 13 PA03, 14 PA04, 15 PA05, 16 PA06, 17 PA07, 18 PB00, 19 PB01, 20 PB02, 21 PB10, 22 PB11, 23 DVSS, 24 DVCC, 25 PB12, 26 PB13, 27 PB14, 28 PB15, 29 PA08, 30 PA09, 31 PA10, 32 PA11, 33 PA12, 34 PA13/SWDIO, 35 PD06, 36 PD07, 37 PA14/SWCLK, 38 PA15, 39 PB03, 40 PB04, 41 PB05, 42 PB06, 43 PB07, 44 BOOT0, 45 PB08, 46 PB09, 47 DVSS, 48 DVCC, 49 DVSS

## HT6818
designator IC?
Dual Channel 3.3Wx1@4Ω Class D Amplifier TSSOP-20-EP Audio Amplifiers ROHS; Manufacturer: Jiaxing Heroic Elec Tech; So_Chan_Dan: 21; So_Chna_Cam: 0; Mfr.Part #: HT6818; Package: TSSOP-20-EP; Name: HT6818; Link: https://www.lcsc.com/product-detail/Audio-Amplifiers_Jiaxing-Heroic-Elec-Tech-HT6818_C130782.html
footprint TSSOP-20-EP
pins: 1 AGND, 2 INL-, 3 INL+, 4 ACRC, 5 OUTL+, 6 PVDD, 7 PGND, 8 OUTL-, 9 MUTE, 10 /SDL, 11 /SDR, 12 AVDD, 13 OUTR-, 14 PGND, 15 PVDD, 16 OUTR+, 17 G0, 18 INR+, 19 INR-, 20 NC, 21 EP

## IMC301A-F064
designator IC?, comment IMC301A
High Performance motor control IC, Singe motor; Manufacturer: Infineon Technologies; Mfr.Part #: IMC301A-F064; Package: PG-LQFP-64
footprint LQFP-64(10x10)
part A pins: 10 REFW/AHALL1+/AIN1 (in) "Itrip phase W reference/Analog hall 1 negative input/Analog input 1", 11 IW/AHALL1_N/AIN2 (in) "Current sense input phase W/Analog input 2", 12 AIN3 (in) "Analog Hall sensor input", 13 NTC/AIN4 (in) "External thermistor input/Analog input 4", 14 VDC (in) "DC bus sensing input", 15 IV/AHALL2_N (in) "Current sense input phase V/analog input", 16 REFV/AHALL2+/AIN7 (in) "Itrip phase V reference/Analog hall 2 negative input/Analog input 7", 17 REFU/AIN8 (in) "Itrip phase U reference/Analog input 8", 18 ISS/IU (in) "Current sense input phase U / single shunt", 19 AIN10 (in) "Analog Hall sensor input", 20 AIN11 (in) "Analog Hall sensor input", 23 VSS (power) "Ground", 24 VDD (power) "Supply Voltage", 25 VDD (power) "Supply Voltage", 26 HALL1/GPIO9 (io) "Digital Hall sensor input1/User configurable I/O, digital", 27 HALL2/GPIO10 (io) "Digital Hall sensor input2/User configurable I/O, digital", 28 HALL3/GPIO11 (io) "Digital Hall sensor input3/User configurable I/O, digital", 29 PWMUL (out) "PWM output phase U low side", 30 PWMUH (out) "PWM output phase U high side", 31 PWMVL (out) "PWM output phase V low side", 32 PWMVH (out) "PWM output phase V high side", 33 PWMWL (out) "PWM output phase W low side", 34 PWMWH (out) "PWM output phase W high side", 35 VDD (power) "Supply Voltage", 36 GK (in) "Motor gate kill input", 41 LED (out) "Status LED", 42 PGOUT (out) "Pulse output", 45 RXD0 (in) "Serial port 0, receive input", 46 TXD0 (out) "Serial port 0, transmit output", 49 VSS (power) "Ground", 50 VDD (power) "Supply Voltage", 57 SWDIO (io) "User serial debug I/O", 58 SWDCLK (in) "User serial debug clock", 63 RXD1/P404 (io) "Serial port 1, receive input, programmable IO", 64 TXD1/P405 (io) "Serial port 1, transmit input, programmable IO"
part B pins: 1 P406 (io) "Programmable I/O", 2 P407 (io) "Programmable I/O", 3 P200 (io) "Programmable I/O or analog input", 4 P201 (io) "Programmable I/O or analog input", 5 P202 (io) "Programmable I/O or analog input", 6 P206 (io) "Programmable I/O or analog input", 7 P208 (io) "Programmable I/O or analog input", 8 P210 (io) "Programmable I/O or analog input", 9 P211 (io) "Programmable I/O or analog input", 21 GPIO7 (io), 22 GPIO8 (io), 37 GPIO12 (io) "User configurable I/O, digital", 38 GPIO13 (io) "User configurable I/O, digital", 39 GPIO14 (io) "User configurable I/O, digital", 40 GPIO15 (io) "User configurable I/O, digital", 43 GPIO16 (io) "User configurable I/O, digital", 44 GPIO17 (io) "User configurable I/O, digital", 47 P101 (io) "Programmable I/O", 48 P100 (io) "Programmable I/O", 51 P008 (io) "Programmable I/O", 52 P009 (io) "Programmable I/O", 53 P010 (io) "Programmable I/O", 54 P011 (io) "Programmable I/O", 55 P012 (io) "Programmable I/O", 56 P013 (io) "Programmable I/O", 59 P400 (io) "Programmable I/O", 60 P401 (io) "Programmable I/O", 61 P402 (io) "Programmable I/O", 62 P403 (io) "Programmable I/O"
part A text: Power Supply; Motor Control; Interface; Communication
part B text: I/O

## INA128UA/2K5
designator IC?, comment INA128UA
50uV 5nA 4V/us 120dB 1.3MHz 1 SOIC-8-150mil Amplifiers RoHS; Manufacturer: TI; Mfr.Part #: INA128UA/2K5; Package: SOIC-8-150mil; LCSC Part #: C22233; DigiKey Part Number: 296-26057-2-ND
footprint SOIC-8
pins: 1 RG, 2 VIN-, 3 VIN+, 4 V-, 5 REF, 6 VO, 7 V+, 8 RG

## IR2136STRPBF
designator IC?
Half Bridge 6 200mA 125ns 75ns 10V~20V 350mA SOIC-28-300mil Gate Drivers ROHS; Manufacturer: Infineon; Package: SOIC-28-300mil; Mfr.Part #: IR2136STRPBF
footprint SOIC-28-300mil
footprint TSSOP-28
pins: 1 VCC, 2 HIN1, 3 HIN2, 4 HIN3, 5 ~{LIN1}, 6 ~{LIN2}, 7 ~{LIN3}, 8 ~{FAULT}, 9 ITRIP, 10 EN, 11 RCIN, 12 VSS, 13 COM, 14 LO3, 15 LO2, 16 LO1, 18 VS3, 19 HO3, 20 VB3, 22 VS2, 23 HO2, 24 VB2, 26 VS1, 27 HO1, 28 VB1

## IR2184S
designator IC?
Half Bridge 2 1.9A 40ns 20ns 10V~20V 2.3A SOIC-8 Gate Drivers ROHS; Manufacturer: Infineon Technologies; Mfr.Part #: IR2184STRPBF; So_Chan_Dan: 8; So_Chan_Cam: 0; Package: SOP-8; Name: IR2184S
footprint SOIC-8
pins: 1 IN, 2 SD#, 3 COM, 4 LO, 5 VCC, 6 VS, 7 HO, 8 VB

## L298N
designator IC?
MultiwAtt-15 Stepper Motor Driver ROHS; Manufacturer: Texas Instruments; So_Chan_Dan: 0; So_Chan_Cam: 15; Mfr.Part #: L298N; Name: L298N; Package: MultiwAtt-15; Links: https://www.lcsc.com/product-detail/Stepper-Motor-Driver_STMicroelectronics-L298N_C19922.html?s_z=n_L298
footprint MultiwAtt-15
footprint MultiwAtt-15 + HEATSTINK
pins: 1 SENSEA, 2 OUT1, 3 OUT2, 4 VS, 5 IN1, 6 ENA, 7 IN2, 8 GND, 9 VSS, 10 IN3, 11 ENB, 12 IN4, 13 OUT3, 14 OUT4, 15 SENSEB

## LF353DR
designator IC?
5mV 50pA 13V/us 101dB 3MHz 3.6mA 2 SOIC-8 Amplifiers RoHS; Manufacturer: TI; Package: SOIC-8; Mfr.Part #: LF353DR; LCSC Part #: C7918; DigiKey Part Number: 296-14587-2-ND; ComponentLink1Description: Link; ComponentLink1URL: https://www.lcsc.com/product-detail/C7918.html?s_z=n_lf353; ComponentLink2Description: Link 1; ComponentLink2URL: https://www.digikey.com/en/products/detail/texas-instruments/LF353DR/555710
footprint SOIC-8
part A pins: 1 OUT1, 2 -, 3 +, 4 VCC- (power), 8 VCC+ (power)
part B pins: 5 +, 6 -, 7 OUT2

## LIS2DE12TR
designator IC?
X,Y,Z LGA-12(2x2) Accelerometers ROHS; Manufacturer: STMicroelectronics; So_Chan_Dan: 12; So_Chna_Cam: 0; Mfr.Part #: LIS2DE12TR; Package: LGA-12(2x2); Name: LIS2DE12TR
footprint LGA-12(2x2)
pins: 1 SCL/SPC, 2 CS, 3 SDO/SA0, 4 SDA/SDI/SAO, 5 RES, 6 GND, 7 GND, 8 GND, 9 VDD, 10 VDDIO, 11 INT2, 12 INT1

## LIS2DW12TR
designator IC?
X,Y,Z LGA-12(2x2) Accelerometers ROHS; Manufacturer: STMicroelectronics; So_Chan_Dan: 12; So_Chna_Cam: 0; Mfr.Part #: LIS2DW12TR; Package: LGA-12(2x2); Name: LIS2DW12TR
footprint LGA-12(2x2)
pins: 1 SCL/SPC, 2 CS, 3 SDO/SA0, 4 SDA/SDI/SAO, 5 NC, 6 GND, 7 RES, 8 GND, 9 VDD, 10 VDDIO, 11 INT2, 12 INT1

## LM35DZ/LFT1
designator IC?, comment LM35
4V~30V TO-92 Analog and Digital Output RoHS; Manufacturer: Texas Instruments; Mfr.Part #: LM35DZ/LFT1; Package: TO-92; LCSC Part #: C181511; DigiKey Part Number: 296-LM35DZ/LFT1TR-ND
footprint TO-92
pins: 1 +VS, 2 VOUT, 3 GND (power)

## LM358DT
designator IC?
20nA Dual 800kHz SOIC-8 Operational Amplifier ROHS; Manufacturer: STMicroelectronics; Package: SOIC-8; Mfr.Part #: LM358DT; LCSC Part #: C9418
footprint SOIC-8
part A pins: 1 OUT1, 2 -, 3 +, 4 GND (power), 8 VCC (power)
part B pins: 5 +, 6 -, 7 OUT2

## LM358P
designator IC?
Dual 20nA 0.3V/us 3mV DIP-8 Operational Amplifier ROHS; Manufacturer: STMicroelectronics; So_Chan_Dan: 8; So_Chan_Cam: 0; Package: DIP-8; Mfr.Part #: LM358P; Name: LM358P
footprint DIP-8
part A pins: 1 OUT1, 2 -, 3 +, 4 GND (power), 8 VCC (power)
part B pins: 5 +, 6 -, 7 OUT2

## LM393DT_1
designator IC?, comment LM393
1mV 20nA Dual channel SOIC-8 Comparators ROHS; Manufacturer: STMicroelectronics; Mfr.Part #: LM393DT; Package: SOIC-8; Name: LM393DT
footprint SOIC-8
pins: 5 +, 6 -, 7 OUT2

## LM2594-5.0
designator IC?
Step-down type Fixed 5V 4.5V~57V 1.5A SOP-8 DC-DC Converters ROHS; Manufacturer: UMW(Youtai Semiconductor Co., Ltd.); Mfr.Part #: LM2594HVM-5.0; So_Chan_Dan: 8; So_Chan_Cam: 0; Package: SOP-8; Name: LM2594-5.0
footprint SOIC-8
pins: 1 NC, 2 NC, 3 NC, 4 FB, 5 ON/OFF, 6 GND, 7 VIN, 8 OUTPUT

## LM3914N-1/NOPB
designator IC?, comment LM3914N
DIP-18 Digital Tube Drivers ROHS; Manufacturer: Texas Instruments; Mfr.Part #: LM3914N-1/NOPB; So_Chan_Dan: 18; So_Chan_Cam: 0; Package: DIP-18; Name: LM3914N-1/NOPB
footprint DIP-18
pins: 1 LED1, 2 V-, 3 V+, 4 RLO, 5 SIG, 6 RHI, 7 VR, 8 ADJ, 9 MDE, 10 LED10, 11 LED9, 12 LED8, 13 LED7, 14 LED6, 15 LED5, 16 LED4, 17 LED3, 18 LED2

## LP28300AQVF
designator IC?
20V 6A 25mΩ@4.5V,4A 1W 1V@250uA 2 N-Channel TSSOP-8 MOSFETs ROHS; Manufacturer: LOWPOWER; So_Chan_Dan: 11; So_Chan_Cam: 0; Package: TDFN-10-EP(3x3); Name: LP28300AQVF; Mfr.Part #: LP28300AQVF
footprint TDFN-10-EP(3x3)
pins: 1 REG, 2 VIN, 3 PMID (power), 4 SW (power), 5 GND (power), 6 NTC, 7 STAT, 8 BST, 9 BAT, 10 RS, 11 GND

## MAX232DR
designator IC?, comment MAX232D
120Kbps Transceiver SOIC-16 RS232 ICs ROHS; Manufacturer: Texas Instruments; Mfr.Part #: MAX232DR; Package: SOIC-16; LCSC Part #: C158068; DigiKey Part Number: 296-14619-2-ND
footprint SOIC-16
pins: 1 C1+, 2 VS+, 3 C1-, 4 C2+, 5 C2-, 6 VS-, 7 T2OUT, 8 R2IN, 9 R2OUT, 10 T2IN, 11 T1IN, 12 R1OUT, 13 R1IN, 14 T1OUT, 15 GND, 16 VCC

## MAX232ESE+T-JSM
designator IC?, comment MAX232
Transceiver 3V~5.5V SOP-16 Drivers, Receivers, Transceivers RoHS; Manufacturer: JSMSEMI; Mfr.Part #: MAX232ESE+T-JSM; Package: SOP-16; LCSC Part #: C41421781; DigiKey Part Number: NO
footprint SOIC-16
pins: 1 C1+, 2 VS+, 3 C1-, 4 C2+, 5 C2-, 6 VS-, 7 DOUT2, 8 RIN2, 9 ROUT2, 10 DIN2, 11 DIN1, 12 ROUT2, 13 RIN1, 14 DOUT1, 15 GND, 16 VCC

## MAX485ESA+T
designator IC?, comment MAX485
Transceiver 4.75V~5.25V SOIC-8 Drivers, Receivers, Transceivers RoHS; Manufacturer: MAXIM; Mfr.Part #: MAX485ESA+T; Package: SOIC-8; LCSC Part #: C19738; DigiKey Part Number: MAX485ESA+TTR-ND
footprint SOIC-8
pins: 1 RO, 2 RE#, 3 DE, 4 DI, 5 GND, 6 A, 7 B, 8 VCC

## MAX3485EESA+T
designator IC?, comment MAX3485
Transceiver Half-Duplex 3V~3.6V SOIC-8 Drivers, Receivers, Transceivers RoHS; Manufacturer: MAXIM; Mfr.Part #: MAX3485EESA+T; Package: SOIC-8; LCSC Part #: C9943; DigiKey Part Number: MAX3485EESA+TTR-ND
footprint SOIC-8
pins: 1 RO, 2 RE#, 3 DE, 4 DI, 5 GND, 6 A, 7 B, 8 VCC

## MCP3204
designator IC?
12 Bits 2.7V~5.5V 100kHz SOIC-14 Analog to Digital Converters (ADC) ROHS; Manufacturer: Microchip Tech; Mfr.Part #: MCP3204-CI/SL; So_Chan_Dan: 14; So_Chna_Cam: 0; Package: SOIC-14; Name: MCP3204
footprint SOP-14
pins: 1 CH0, 2 CH1, 3 CH2, 4 CH3, 5 NC, 6 NC, 7 DGND, 8 CS#/SHDN, 9 DIN, 10 DOUT, 11 CLK, 12 AGND, 13 VREF, 14 VDD

## MIC4424YM
designator IC?
Low Edge 2 MOSFET 3A 28ns 32ns 4.5V~18V 3A SOIC-8 Gate Drivers ROHS; Manufacturer: Microchip Tech; Mfr.Part #: MIC4424YM-TR; So_Chan_Dan: 8; So_Chan_Cam: 0; Package: SOIC-8
footprint SOIC-8
pins: 1 NC, 2 INA, 3 GND, 4 INB, 5 OUTB, 6 VS, 7 OUTA, 8 NC

## MPU-6050
designator IC?
Accelerometer gyroscope QFN-24-EP(4x4) Accelerometers ROHS; Manufacturer: TDK InvenSense; So_Chan_Dan: 25; So_.Chan_Cam: 0; Mfr.Part #: MPU-6050; Package: QFN-24-EP(4x4); Name: MPU-6050
footprint QFN-24-EP(4x4)
pins: 1 CLKIN, 2 NC, 3 NC, 4 NC, 5 NC, 6 AUX_DA, 7 AUX_CL, 8 VLOGIC, 9 AD0, 10 REGOUT, 11 FSYNC, 12 INT, 13 VDD, 14 NC, 15 NC, 16 NC, 17 NC, 18 GND, 19 RESV, 20 CPOUT, 21 RESV, 22 RESV, 23 SCL, 24 SDA, 25 EP

## MT3608
designator IC?
Boost type 28V 2V~24V SOT-23-6 DC-DC Converters ROHS; Manufacturer: XI'AN Aerosemi Tech; So_Chan_Dan: 6; So_Chan_Cam: 0; Package: SOT23-6; Name: MT3608; Mfr.Part #: MT3608
footprint SOT23-6
pins: 1 SW, 2 GND, 3 FB (power), 4 EN (power), 5 IN (power), 6 NC

## NE555P
designator IC?, comment NE555
100kHz DIP-8 Timers / Counters ROHS; Manufacturer: Texas Instruments; Mfr.Part #: NE555P; So_Chan_Dan: 0; So_.Chan_Cam: 6; ComponentLink1Description: New link; ComponentLink1URL: https://www.lcsc.com/product-detail/Timers-Clock-Oscillators_Texas-Instruments-NE555D_C234230.html; Package: DIP-8; Name: NE555
footprint DIP-8
pins: 1 GND, 2 TRIG, 3 OUT, 4 RESET, 5 CONT, 6 THERS, 7 DISCH, 8 VCC

## OPA2604AP
designator IC?
20MHz DIP-8 FET Input Amplifiers ROHS; Manufacturer: Texas Instruments; So_Chan_Dan: 0; So_Chan_Cam: 8; Mfr.Part #: OPA2604AP; Package: DIP-8; Name: OPA2604AP
footprint DIP-8
footprint SOIC-8
part A pins: 1 OUTA, 2 INA-, 3 INA+, 4 V-, 8 V+
part B pins: 5 INB+, 6 INB-, 7 OUTB

## PA96CE
designator OPAM?
TO-3-8 Amplifiers RoHS; Manufacturer: APEX; Package: TO-3-8; Mfr.Part #: PA96CE; LCSC Part #: C18213792; ComponentLink1Description: Link; ComponentLink1URL: https://www.lcsc.com/product-detail/C18213792.html?s_z=n_PA96CE; ComponentLink2Description: Link 1; ComponentLink2URL: https://www.mouser.vn/ProductDetail/Apex-Microtechnology/PA96CE?qs=TiOZkKH1s2S6RGQQrMN02A%3D%3D&srsltid=AfmBOopWmAi7-CiaxsE3NTOhZujj8-wvrtGLD9loa2KCH2A-uqukY69L; DigiKey Part Number: NO
footprint TO-3
pins: 1 OUT1, 2 CL, 3 +VS (power), 4 IN+, 5 IN-, 6 -VS (power), 7 Cc, 8 Cc

## PAM8403
designator IC?
SOP-16 Audio Power OpAmps ROHS
footprint SOP-16
pins: 1 OUTL+, 2 PGND, 3 OUTL-, 4 PVDD, 5 MUTE#, 6 VDD, 7 INL, 8 VREF, 9 NC, 10 INR, 11 GND, 12 SHDN#, 13 PVDD, 14 OUTR-, 15 PGND, 16 OUTR+

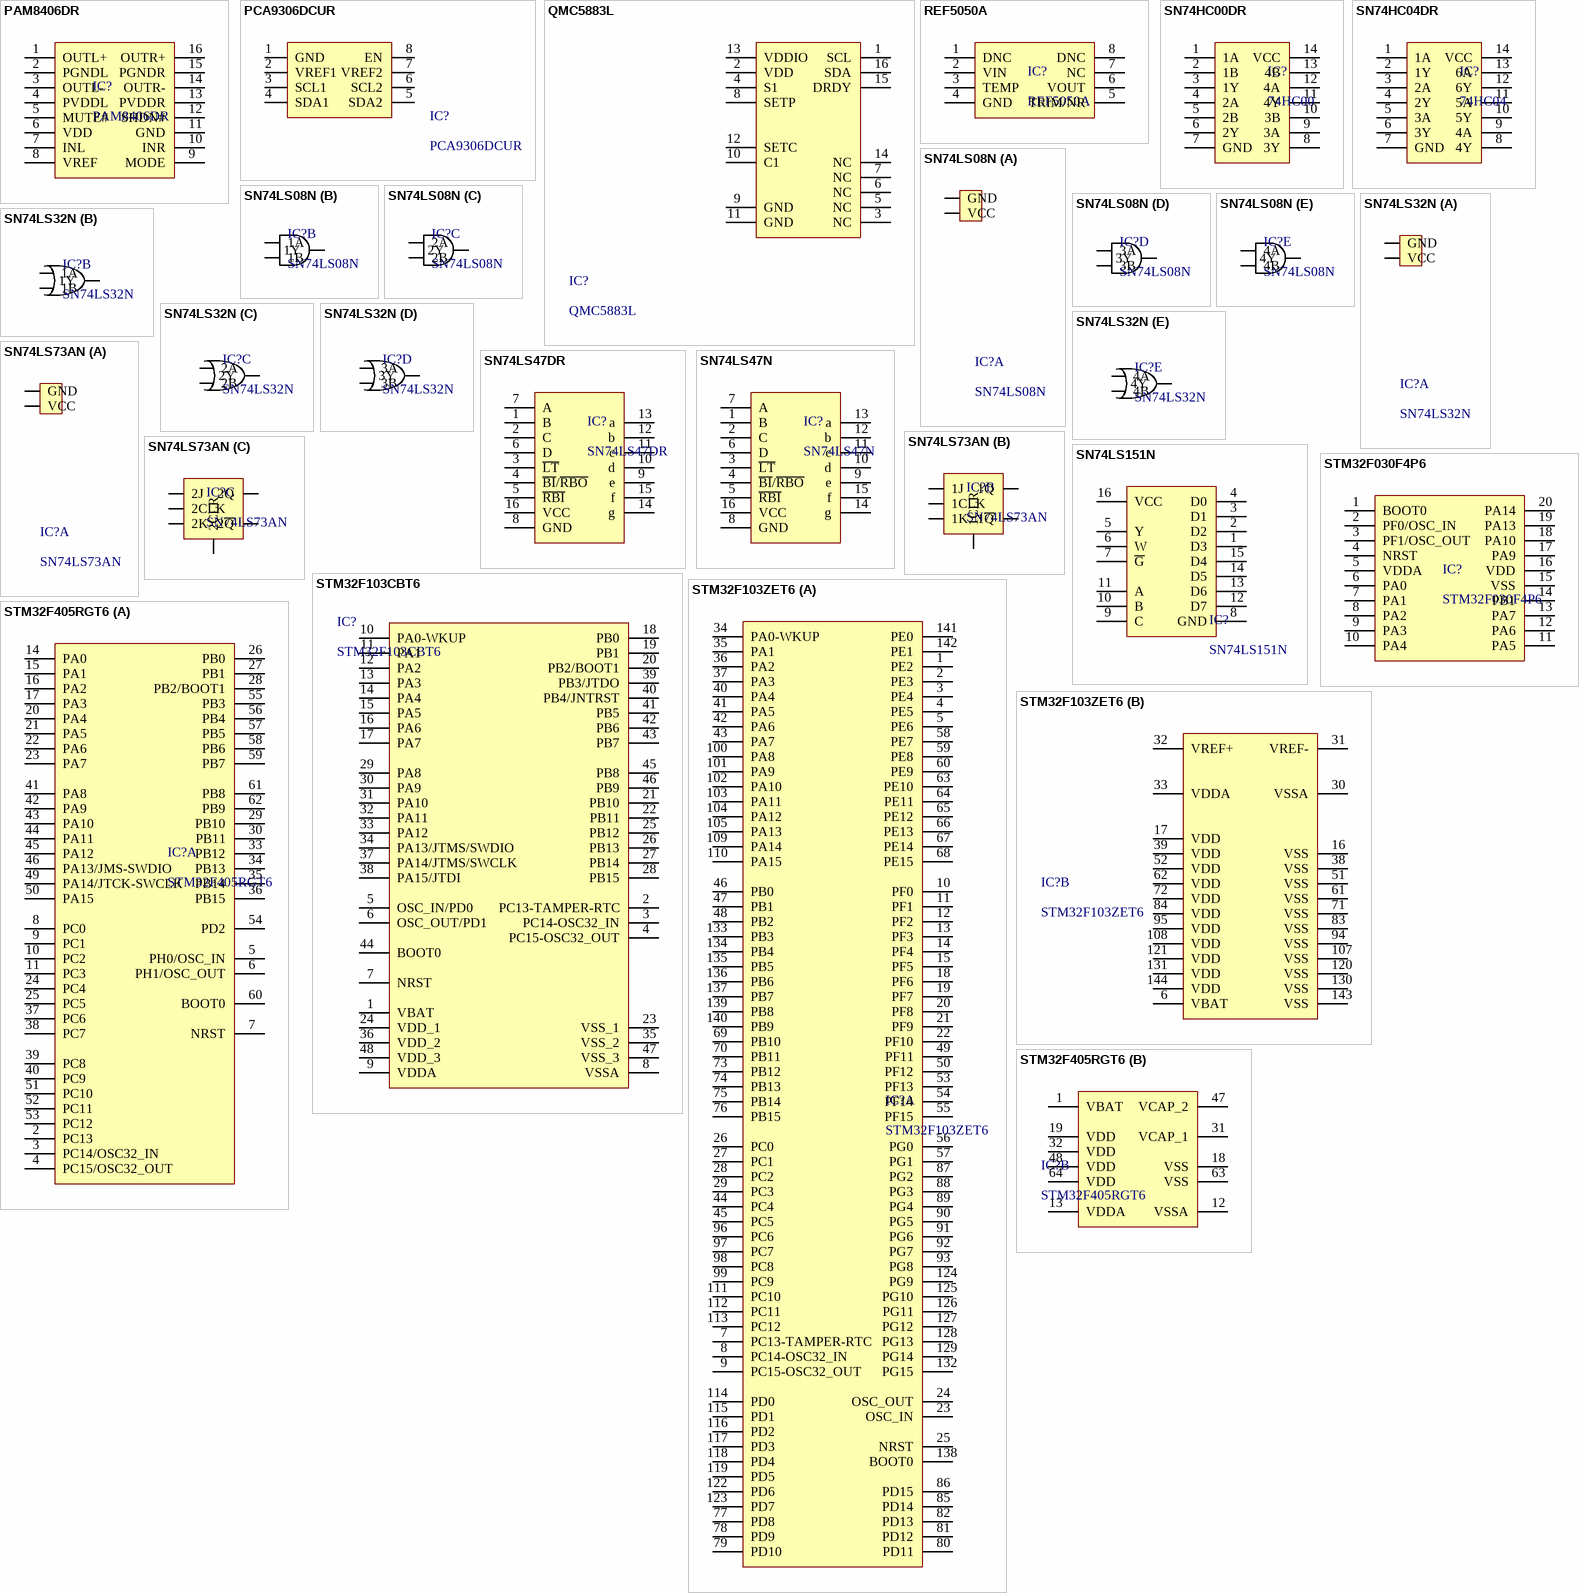
[diagram p4: symbols PAM8406DR to STM32F405RGT6]

## PAM8406DR
designator IC?
Dual Channel 5Wx2@2Ω SOIC-16 Audio Amplifiers ROHS; Manufacturer: Diodes Incorporated; So_Chan_Dan: 16; So_Chna_Cam: 0; Mfr.Part #: PAM8406DR; Package: SOIC-16; Name: PAM8406DR
footprint SOIC-16
pins: 1 OUTL+, 2 PGNDL, 3 OUTL-, 4 PVDDL, 5 MUTE#, 6 VDD, 7 INL, 8 VREF, 9 MODE, 10 INR, 11 GND, 12 SHDN#, 13 PVDDR, 14 OUTR-, 15 PGNDR, 16 OUTR+

## PCA9306DCUR
designator IC?
1 2 VSSOP-8 Translators, Level Shifters RoHS; Manufacturer: TI; Package: VSSOP-8; Mfr.Part #: PCA9306DCUR; LCSC Part #: C33196; DigiKey Part Number: 296-17988-2-ND
footprint VSSOP-8
pins: 1 GND, 2 VREF1, 3 SCL1, 4 SDA1, 5 SDA2, 6 SCL2, 7 VREF2, 8 EN

## QMC5883L
designator IC?
LGA-16(3x3) 3D Magnetic Sensors ROHS; Manufacturer: QST; So_Chan_Dan: 16; So_Chan_Cam: 0; Mfr.Part #: QMC5883L; Package: LCC-16; Name: QMC5883L
footprint LCC-16
pins: 1 SCL, 2 VDD, 3 NC, 4 S1, 5 NC, 6 NC, 7 NC, 8 SETP, 9 GND, 10 C1, 11 GND, 12 SETC, 13 VDDIO, 14 NC, 15 DRDY, 16 SDA

## REF5050A
designator IC?
5V ±0.1% 5.2V~18V 10mA Fixed SOIC-8 Voltage Reference ROHS; Manufacturer: Texas Instruments; Mfr.Part #: REF5050AIDR; So_Chan_Dan: 8; So_Chan_Cam: 0; Package: SOIC-8; Name: REF5050A
footprint SOIC-8
pins: 1 DNC, 2 VIN, 3 TEMP, 4 GND, 5 TRIM/NR, 6 VOUT, 7 NC, 8 DNC

## SN74HC00DR
designator IC?, comment 74HC00
2uA 2V~6V 15ns@6V,50pF SOIC-14 Gates and Inverters RoHS; Manufacturer: TI; Mfr.Part #: SN74HC00DR; Package: SOIC-14; LCSC Part #: C10090; DigiKey Part Number: 296-1187-2-ND; ComponentLink1Description: Link; ComponentLink1URL: https://www.lcsc.com/product-detail/C10090.html?s_z=n_74hc00; ComponentLink2Description: Link 1; ComponentLink2URL: https://www.digikey.com/en/products/detail/texas-instruments/SN74HC00DR/276830
footprint SOP-14
pins: 1 1A, 2 1B, 3 1Y, 4 2A, 5 2B, 6 2Y, 7 GND, 8 3Y, 9 3A, 10 3B, 11 4Y, 12 4A, 13 4B, 14 VCC

## SN74HC04DR
designator IC?, comment 74HC04
2V~6V 16ns@6V,50pF 2uA 6 1 SOIC-14 Gates and Inverters RoHS; Manufacturer: TI; Mfr.Part #: SN74HC04DR; Package: SOIC-14; LCSC Part #: C6811; DigiKey Part Number: 296-1189-2-ND; ComponentLink1Description: Link; ComponentLink1URL: https://www.lcsc.com/product-detail/C6811.html?s_z=n_74HC04; ComponentLink2Description: Link 1; ComponentLink2URL: https://www.digikey.com/en/products/detail/texas-instruments/SN74HC04DR/276832
footprint SOP-14
pins: 1 1A, 2 1Y, 3 2A, 4 2Y, 5 3A, 6 3Y, 7 GND, 8 4Y, 9 4A, 10 5Y, 11 5A, 12 6Y, 13 6A, 14 VCC

## SN74LS08N
designator IC?
4.75V~5.25V 4 20ns@5V,15pF With Door PDIP-14 Logic Gates ROHS; Manufacturer: Texas Instruments; So_Chan_Dan: 0; So_Chna_Cam: 14; Mfr.Part #: SN74LS08N; Package: PDIP-14; Name: SN74LS08N
footprint DIP-14
part A pins: 7 GND, 14 VCC
part B pins: 1 1A, 2 1B, 3 1Y
part C pins: 4 2A, 5 2B, 6 2Y
part D pins: 8 3Y, 9 3A, 10 3B
part E pins: 11 4Y, 12 4A, 13 4B

## SN74LS32N
designator IC?
4.75V~5.25V 4 22ns@5V,15pF ORGate PDIP-14 Logic Gates ROHS; Manufacturer: Texas Instruments; So_Chan_Dan: 0; So_Chna_Cam: 14; Mfr.Part #: SN74LS32N; Package: PDIP-14; Name: SN74LS32N
footprint DIP-14
part A pins: 7 GND, 14 VCC
part B pins: 1 1A, 2 1B, 3 1Y
part C pins: 4 2A, 5 2B, 6 2Y
part D pins: 8 3Y, 9 3A, 10 3B
part E pins: 11 4Y, 12 4A, 13 4B

## SN74LS47DR
designator IC?
SOIC-16 Digital Tube Drivers ROHS; Manufacturer: Texas Instruments; So_Chan_Dan: 16; So_Chan_Cam: 0; Mfr.Part #: SN74LS47DR; Package: SOIC-16; Name: SN74LS47
footprint SOIC-16
pins: 1 B, 2 C, 3 ~{LT}, 4 ~{BI}/~{RBO}, 5 ~{RBI}, 6 D, 7 A, 8 GND, 9 e, 10 d, 11 c, 12 b, 13 a, 14 g, 15 f, 16 VCC

## SN74LS47N
designator IC?
DIP-16 Digital Tube Drivers ROHS; Manufacturer: Texas Instruments; So_Chan_Dan: 0; So_Chan_Cam: 16; Mfr.Part #: SN74LS47N; Package: DIP-16; Name: SN74LS47N
footprint DIP-16
pins: 1 B, 2 C, 3 ~{LT}, 4 ~{BI}/~{RBO}, 5 ~{RBI}, 6 D, 7 A, 8 GND, 9 e, 10 d, 11 c, 12 b, 13 a, 14 g, 15 f, 16 VCC

## SN74LS73AN
designator IC?
4.75V~5.25V 45MHz 20ns@5V,45pF JK-Type 1 2 6mA PDIP-14 Flip Flops ROHS; Manufacturer: Texas Instruments; So_Chan_Dan: 0; So_Chna_Cam: 14; Mfr.Part #: SN74LS73AN; Package: PDIP-14; Name: SN74LS73AN
footprint DIP-14
part A pins: 4 VCC, 11 GND
part B pins: 1 1CLK, 2 1CLR, 3 1K, 12 1Q, 13 1~{Q}, 14 1J
part C pins: 5 2CLK, 6 2CLR, 7 2J, 8 2~{Q}, 9 2Q, 10 2K

## SN74LS151N
designator IC?
8mA 4.75V~5.25V 400uA PDIP-16 Signal Switches, Multiplexers, Decoders ROHS; Manufacturer: Texas Instruments; So_Chan_Dan: 0; So_Chan_Cam: 16; Mfr.Part #: SN74LS151N; Package: DIP-16; Name: SN74LS151N
footprint DIP-16
pins: 1 D3, 2 D2, 3 D1, 4 D0, 5 Y, 6 W, 7 ~{G}, 8 GND, 9 C, 10 B, 11 A, 12 D7, 13 D6, 14 D5, 15 D4, 16 VCC

## STM32F030F4P6
designator IC?
ARM Cortex-M0 32 Bit 48MHz 15 TSSOP-20 Microcontrollers RoHS; Manufacturer: ST; Mfr.Part #: STM32F030F4P6; Package: TSSOP-20; LCSC Part #: C32908; DigiKey Part Number: 497-14044-5-ND; ComponentLink1Description: Link; ComponentLink1URL: https://www.lcsc.com/product-detail/C32908.html?s_z=n_stm32f030f4t6&spm=wm.ssy.bg.0.xh&lcsc_vid=RlMKBl1fQlJdAlBTQgUIUgUHQFUPBlJQFlJXVl0AT1cxVlNRQ1NcUVJUR1ddUDsOAxUeFF5JWBYZEEoKFBINSQcJGk4eFQsCAgIaSgADAwAHC0slTlBdV1ZIHxUDCw%3D%3D; ComponentLink2Description: Link 1; ComponentLink2URL: https://www.digikey.com/en/products/detail/stmicroelectronics/STM32F030F4P6/4357517
footprint TSSOP-20
pins: 1 BOOT0, 2 PF0/OSC_IN, 3 PF1/OSC_OUT, 4 NRST, 5 VDDA, 6 PA0, 7 PA1, 8 PA2, 9 PA3, 10 PA4, 11 PA5, 12 PA6, 13 PA7, 14 PB1, 15 VSS, 16 VDD, 17 PA9, 18 PA10, 19 PA13, 20 PA14

## STM32F103CBT6
designator IC?
ARM-M3 72MHz 37 LQFP-48(7x7) Microcontrollers RoHS; Manufacturer: ST; Mfr.Part #: STM32F103CBT6; Package: LQFP-48(7x7); LCSC Part #: C8304; DigiKey Part Number: 497-6288-ND
footprint LQFP-48(7x7)
pins: 1 VBAT, 2 PC13-TAMPER-RTC, 3 PC14-OSC32_IN, 4 PC15-OSC32_OUT, 5 OSC_IN/PD0, 6 OSC_OUT/PD1, 7 NRST, 8 VSSA, 9 VDDA, 10 PA0-WKUP, 11 PA1, 12 PA2, 13 PA3, 14 PA4, 15 PA5, 16 PA6, 17 PA7, 18 PB0, 19 PB1, 20 PB2/BOOT1, 21 PB10, 22 PB11, 23 VSS_1, 24 VDD_1, 25 PB12, 26 PB13, 27 PB14, 28 PB15, 29 PA8, 30 PA9, 31 PA10, 32 PA11, 33 PA12, 34 PA13/JTMS/SWDIO, 35 VSS_2, 36 VDD_2, 37 PA14/JTMS/SWCLK, 38 PA15/JTDI, 39 PB3/JTDO, 40 PB4/JNTRST, 41 PB5, 42 PB6, 43 PB7, 44 BOOT0, 45 PB8, 46 PB9, 47 VSS_3, 48 VDD_3

## STM32F103ZET6
designator IC?
ARM Cortex-M3 32 Bit 72MHz 112 LQFP-144(20x20) Microcontrollers RoHS; Manufacturer: ST; Mfr.Part #: STM32F103ZET6; LCSC Part #: C8287; Package: LQFP-144(20x20); DigiKey Part Number: 497-6442-ND
footprint LQFP-144(20x20)
part A pins: 1 PE2, 2 PE3, 3 PE4, 4 PE5, 5 PE6, 7 PC13-TAMPER-RTC, 8 PC14-OSC32_IN, 9 PC15-OSC32_OUT, 10 PF0, 11 PF1, 12 PF2, 13 PF3, 14 PF4, 15 PF5, 18 PF6, 19 PF7, 20 PF8, 21 PF9, 22 PF10, 23 OSC_IN, 24 OSC_OUT, 25 NRST, 26 PC0, 27 PC1, 28 PC2, 29 PC3, 34 PA0-WKUP, 35 PA1, 36 PA2, 37 PA3, 40 PA4, 41 PA5, 42 PA6, 43 PA7, 44 PC4, 45 PC5, 46 PB0, 47 PB1, 48 PB2, 49 PF11, 50 PF12, 53 PF13, 54 PF14, 55 PF15, 56 PG0, 57 PG1, 58 PE7, 59 PE8, 60 PE9, 63 PE10, 64 PE11, 65 PE12, 66 PE13, 67 PE14, 68 PE15, 69 PB10, 70 PB11, 73 PB12, 74 PB13, 75 PB14, 76 PB15, 77 PD8, 78 PD9, 79 PD10, 80 PD11, 81 PD12, 82 PD13, 85 PD14, 86 PD15, 87 PG2, 88 PG3, 89 PG4, 90 PG5, 91 PG6, 92 PG7, 93 PG8, 96 PC6, 97 PC7, 98 PC8, 99 PC9, 100 PA8, 101 PA9, 102 PA10, 103 PA11, 104 PA12, 105 PA13, 109 PA14, 110 PA15, 111 PC10, 112 PC11, 113 PC12, 114 PD0, 115 PD1, 116 PD2, 117 PD3, 118 PD4, 119 PD5, 122 PD6, 123 PD7, 124 PG9, 125 PG10, 126 PG11, 127 PG12, 128 PG13, 129 PG14, 132 PG15, 133 PB3, 134 PB4, 135 PB5, 136 PB6, 137 PB7, 138 BOOT0, 139 PB8, 140 PB9, 141 PE0, 142 PE1
part B pins: 6 VBAT, 16 VSS, 17 VDD, 30 VSSA, 31 VREF-, 32 VREF+, 33 VDDA, 38 VSS, 39 VDD, 51 VSS, 52 VDD, 61 VSS, 62 VDD, 71 VSS, 72 VDD, 83 VSS, 84 VDD, 94 VSS, 95 VDD, 107 VSS, 108 VDD, 120 VSS, 121 VDD, 130 VSS, 131 VDD, 143 VSS, 144 VDD

## STM32F405RGT6
designator IC?
ARM Cortex-M4 32b MCU+FPU, 210DMIPS, Flash/RAM, USB OTG HS/FS, Ethernet, TIMs, ADCs, comm. interfaces & camera; Manufacturer: STMicroelectronics; Mfr.Part #: STM32F405RGT6; Package: LQFP-64(10x10); LCSC Part #: C15742
footprint LQFP-64(10x10)
part A pins: 2 PC13, 3 PC14/OSC32_IN, 4 PC15/OSC32_OUT, 5 PH0/OSC_IN, 6 PH1/OSC_OUT, 7 NRST, 8 PC0, 9 PC1, 10 PC2, 11 PC3, 14 PA0, 15 PA1, 16 PA2, 17 PA3, 20 PA4, 21 PA5, 22 PA6, 23 PA7, 24 PC4, 25 PC5, 26 PB0, 27 PB1, 28 PB2/BOOT1, 29 PB10, 30 PB11, 33 PB12, 34 PB13, 35 PB14, 36 PB15, 37 PC6, 38 PC7, 39 PC8, 40 PC9, 41 PA8, 42 PA9, 43 PA10, 44 PA11, 45 PA12, 46 PA13/JMS-SWDIO, 49 PA14/JTCK-SWCLK, 50 PA15, 51 PC10, 52 PC11, 53 PC12, 54 PD2, 55 PB3, 56 PB4, 57 PB5, 58 PB6, 59 PB7, 60 BOOT0, 61 PB8, 62 PB9
part B pins: 1 VBAT, 12 VSSA, 13 VDDA, 18 VSS, 19 VDD, 31 VCAP_1, 32 VDD, 47 VCAP_2, 48 VDD, 63 VSS, 64 VDD

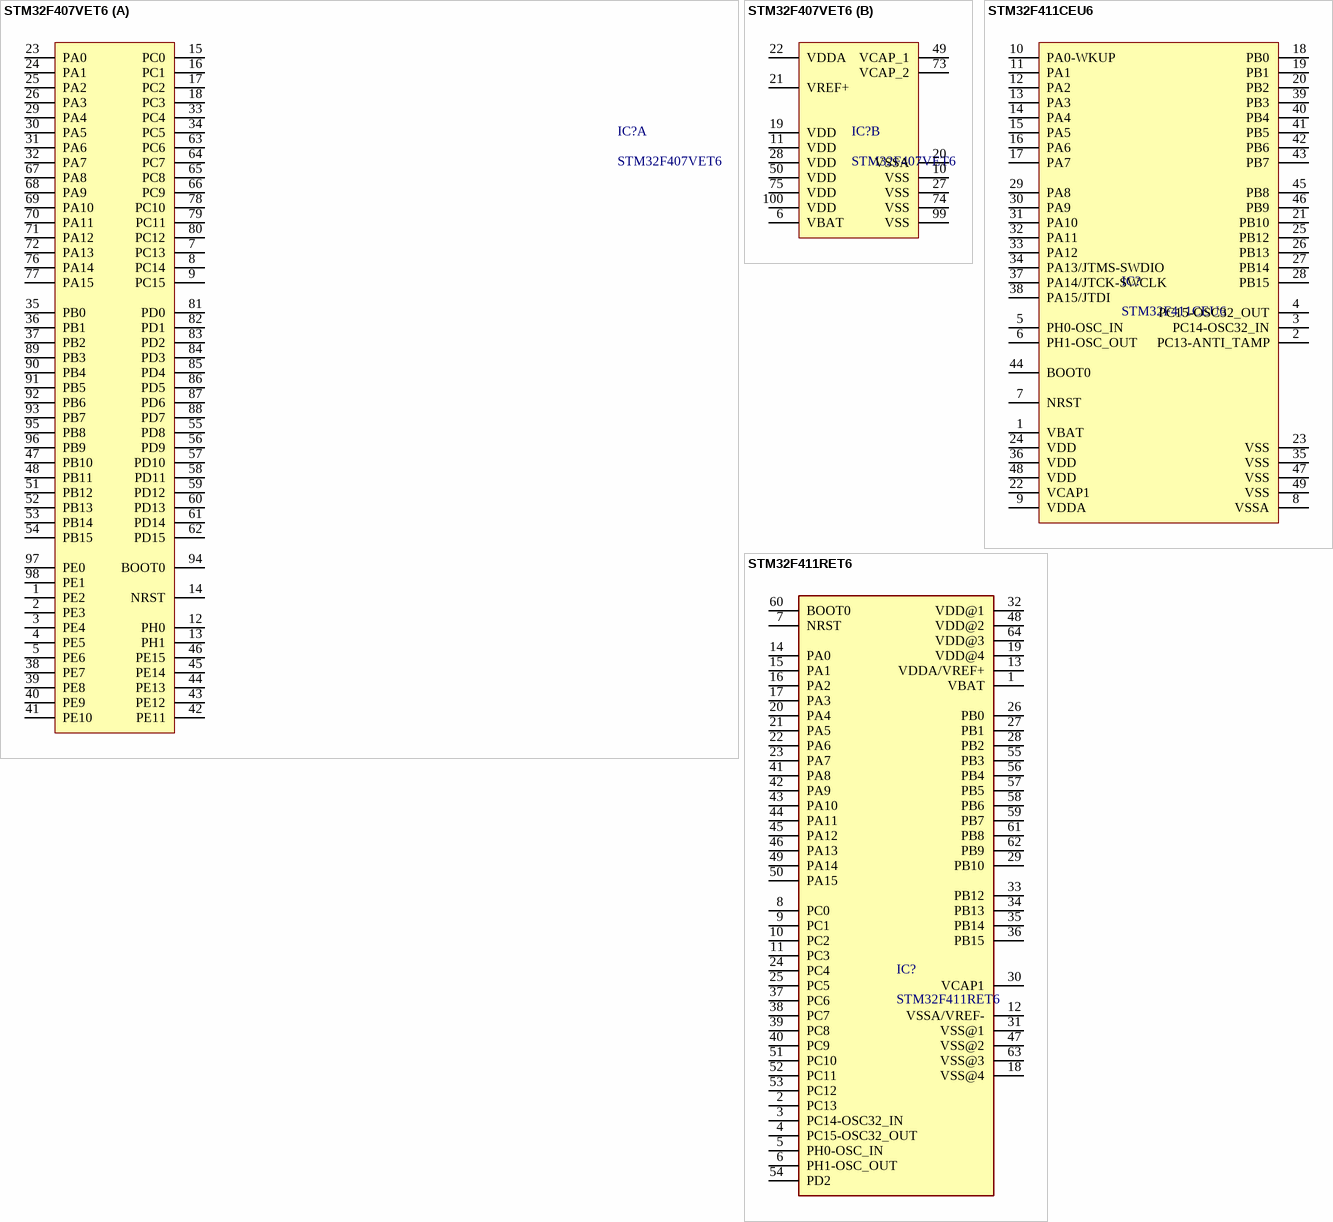
[diagram p5: symbols STM32F407VET6 to STM32F411RET6]

## STM32F407VET6
designator IC?
ARM-M4 168MHz 82 LQFP-100(14x14) Microcontrollers RoHS; Manufacturer: ST; Mfr.Part #: STM32F407VET6; Package: LQFP-100(14x14); LCSC Part #: C28730; DigiKey Part Number: 497-12075-ND; ComponentLink1Description: Link; ComponentLink1URL: https://www.lcsc.com/product-detail/C28730.html?s_z=n_STM32F407VET6; ComponentLink2Description: Link 1; ComponentLink2URL: https://www.digikey.com/en/products/detail/stmicroelectronics/STM32F407VET6/2793093?s=N4IgTCBcDaICwE4DsBaAjGADEgrCgcgCIgC6AvkA
footprint LQFP-100(14x14)
part A pins: 1 PE2, 2 PE3, 3 PE4, 4 PE5, 5 PE6, 7 PC13, 8 PC14, 9 PC15, 12 PH0, 13 PH1, 14 NRST, 15 PC0, 16 PC1, 17 PC2, 18 PC3, 23 PA0, 24 PA1, 25 PA2, 26 PA3 (power), 29 PA4, 30 PA5, 31 PA6, 32 PA7, 33 PC4, 34 PC5, 35 PB0, 36 PB1, 37 PB2, 38 PE7, 39 PE8, 40 PE9, 41 PE10, 42 PE11, 43 PE12, 44 PE13, 45 PE14, 46 PE15, 47 PB10, 48 PB11, 51 PB12, 52 PB13, 53 PB14, 54 PB15, 55 PD8, 56 PD9, 57 PD10, 58 PD11, 59 PD12, 60 PD13, 61 PD14, 62 PD15, 63 PC6, 64 PC7, 65 PC8, 66 PC9, 67 PA8, 68 PA9, 69 PA10, 70 PA11, 71 PA12, 72 PA13, 76 PA14, 77 PA15, 78 PC10, 79 PC11, 80 PC12, 81 PD0, 82 PD1, 83 PD2, 84 PD3, 85 PD4, 86 PD5, 87 PD6, 88 PD7, 89 PB3, 90 PB4, 91 PB5, 92 PB6, 93 PB7, 94 BOOT0, 95 PB8, 96 PB9, 97 PE0, 98 PE1 (power)
part B pins: 6 VBAT (power), 10 VSS (power), 11 VDD (power), 19 VDD (power), 20 VSSA (power), 21 VREF+ (power), 22 VDDA, 27 VSS (power), 28 VDD, 49 VCAP_1 (power), 50 VDD (power), 73 VCAP_2, 74 VSS (power), 75 VDD (power), 99 VSS (power), 100 VDD (power)

## STM32F411CEU6
designator IC?
ARM-M4 100MHz UFQFPN-48(7x7) Microcontrollers (MCU/MPU/SOC) ROHS; Manunfacturer: ST; Mfr.Part #: STM32F411CEU6; Package: UFQFPN-48(7x7); LCSC Part #: C60420
footprint UFQFPN-48(7x7)
pins: 1 VBAT, 2 PC13-ANTI_TAMP, 3 PC14-OSC32_IN, 4 PC15-OSC32_OUT, 5 PH0-OSC_IN, 6 PH1-OSC_OUT, 7 NRST, 8 VSSA, 9 VDDA, 10 PA0-WKUP, 11 PA1, 12 PA2, 13 PA3, 14 PA4, 15 PA5, 16 PA6, 17 PA7, 18 PB0, 19 PB1, 20 PB2, 21 PB10, 22 VCAP1, 23 VSS, 24 VDD, 25 PB12, 26 PB13, 27 PB14, 28 PB15, 29 PA8, 30 PA9, 31 PA10, 32 PA11, 33 PA12, 34 PA13/JTMS-SWDIO, 35 VSS, 36 VDD, 37 PA14/JTCK-SWCLK, 38 PA15/JTDI, 39 PB3, 40 PB4, 41 PB5, 42 PB6, 43 PB7, 44 BOOT0, 45 PB8, 46 PB9, 47 VSS, 48 VDD, 49 VSS

## STM32F411RET6
designator IC?
512KB 1.7V~3.6V ARM-M4 128KB 100MHz FLASH 50 LQFP-64(10x10) Microcontroller Units (MCUs/MPUs/SOCs) ROHS; Manufacturer: STMicroelectronics; So_Chan_Dan: 64; So_Chan_Cam: 0; Package: LQFP-64(10x10); Mfr.Part #: STM32F411RET6; Name: STM32F411RET6
footprint LQFP-64(10x10)
pins: 1 VBAT (power), 2 PC13, 3 PC14-OSC32_IN, 4 PC15-OSC32_OUT, 5 PH0-OSC_IN, 6 PH1-OSC_OUT, 7 NRST, 8 PC0, 9 PC1, 10 PC2, 11 PC3, 12 VSSA/VREF- (power), 13 VDDA/VREF+ (power), 14 PA0, 15 PA1, 16 PA2, 17 PA3, 18 VSS@4 (power), 19 VDD@4 (power), 20 PA4, 21 PA5, 22 PA6, 23 PA7, 24 PC4, 25 PC5, 26 PB0, 27 PB1, 28 PB2, 29 PB10, 30 VCAP1, 31 VSS@1 (power), 32 VDD@1 (power), 33 PB12, 34 PB13, 35 PB14, 36 PB15, 37 PC6, 38 PC7, 39 PC8, 40 PC9, 41 PA8, 42 PA9, 43 PA10, 44 PA11, 45 PA12, 46 PA13, 47 VSS@2 (power), 48 VDD@2 (power), 49 PA14, 50 PA15, 51 PC10, 52 PC11, 53 PC12, 54 PD2, 55 PB3, 56 PB4, 57 PB5, 58 PB6, 59 PB7, 60 BOOT0, 61 PB8, 62 PB9, 63 VSS@3 (power), 64 VDD@3 (power)

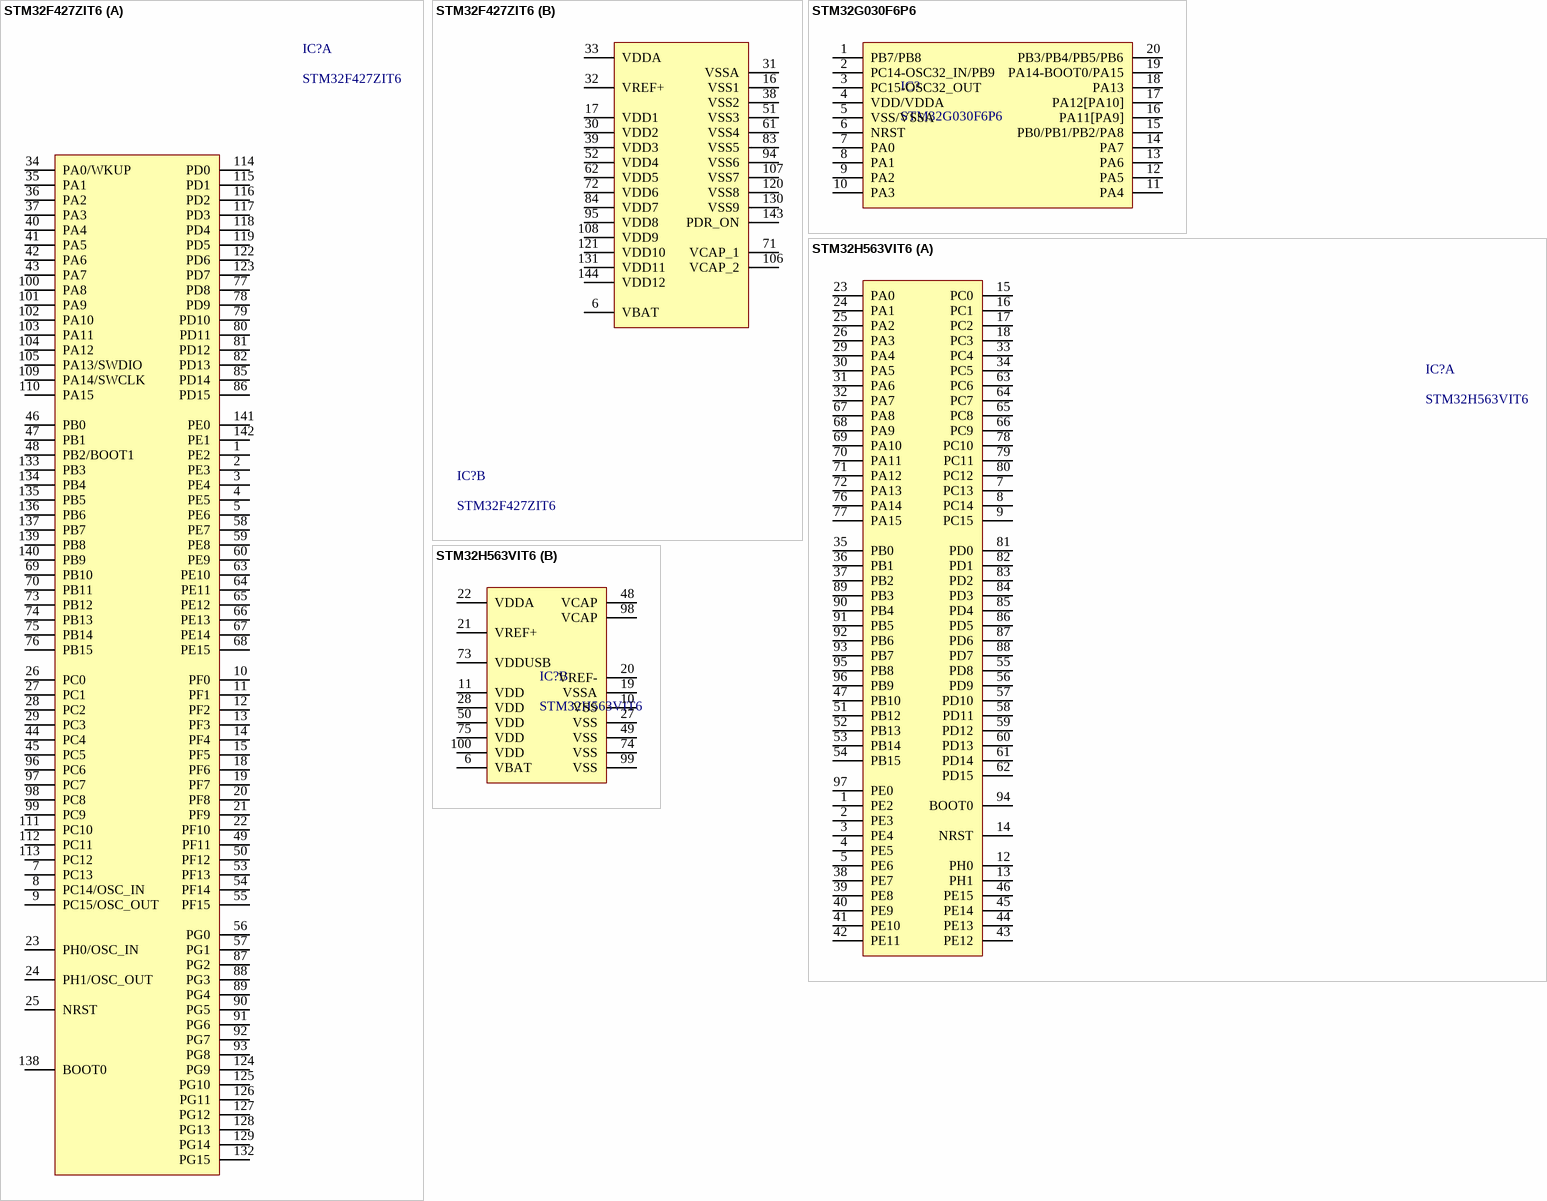
[diagram p6: symbols STM32F427ZIT6 to STM32H563VIT6]